# Altium schematic symbol library HW_HOLLAND_NCDM_MONITOR_R1.SchLib: 617 symbols (part 4 of 7)
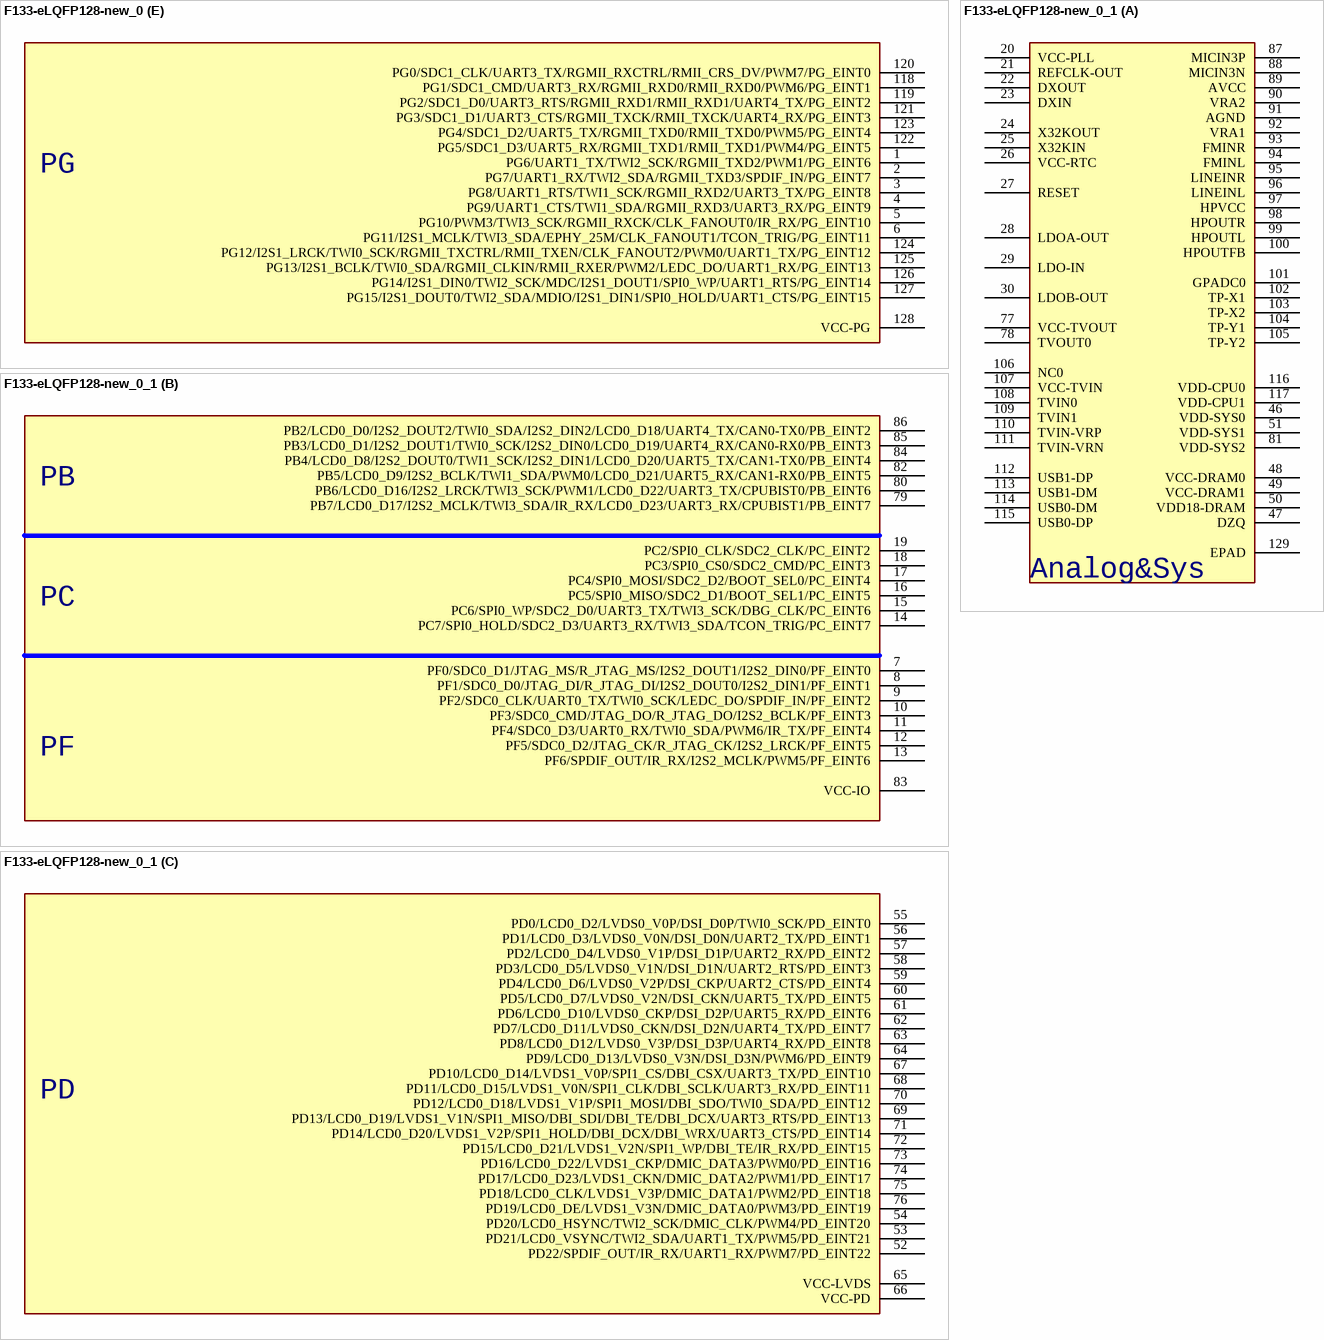
[diagram p22: symbols F133-eLQFP128-new_0 to F133-eLQFP128-new_0_1]

## F133-eLQFP128-new_0
designator U?  (value not drawn)
Manufacturer Part Number: T113-S3; SWAP_INFO: (S1+S2+S3+S4+S5); SPLIT_INST: TRUE; Altium-Right: 150; Altium-Bottom: 360; Altium-Right1: 570; Altium-Bottom1: 270; Altium-Bottom2: 280; Altium-Bottom3: 180; Altium-Bottom4: 200; Altium-Right2: 570; Altium-Right3: 570; Altium-Right4: 570
footprint QFP129P40B1600_1600H160
part A pins: 20 VCC-PLL, 21 REFCLK-OUT, 22 DXOUT, 23 DXIN, 24 X32KOUT, 25 X32KIN, 26 VCC-RTC, 27 RESET, 28 LDOA-OUT, 29 LDO-IN, 30 LDOB-OUT, 46 VDD-SYS0, 47 DZQ, 48 VCC-DRAM0, 49 VCC-DRAM1, 50 VDD18-DRAM, 51 VDD-SYS1, 77 VCC-TVOUT, 78 TVOUT0, 81 VDD-SYS2, 87 MICIN3P, 88 MICIN3N, 89 AVCC, 90 VRA2, 91 AGND, 92 VRA1, 93 FMINR, 94 FMINL, 95 LINEINR, 96 LINEINL, 97 HPVCC, 98 HPOUTR, 99 HPOUTL, 100 HPOUTFB, 101 GPADC0, 102 TP-X1, 103 TP-X2, 104 TP-Y1, 105 TP-Y2, 106 NC0, 107 VCC-TVIN, 108 TVIN0, 109 TVIN1, 110 TVIN-VRP, 111 TVIN-VRN, 112 USB1-DP, 113 USB1-DM, 114 USB0-DM, 115 USB0-DP, 116 VDD-CPU0, 117 VDD-CPU1, 129 EPAD
part B pins: 7 PF0/SDC0_D1/JTAG_MS/R_JTAG_MS/I2S2_DOUT1/I2S2_DIN0/PF_EINT0, 8 PF1/SDC0_D0/JTAG_DI/R_JTAG_DI/I2S2_DOUT0/I2S2_DIN1/PF_EINT1, 9 PF2/SDC0_CLK/UART0_TX/TWI0_SCK/LEDC_DO/SPDIF_IN/PF_EINT2, 10 PF3/SDC0_CMD/JTAG_DO/R_JTAG_DO/I2S2_BCLK/PF_EINT3, 11 PF4/SDC0_D3/UART0_RX/TWI0_SDA/PWM6/IR_TX/PF_EINT4, 12 PF5/SDC0_D2/JTAG_CK/R_JTAG_CK/I2S2_LRCK/PF_EINT5, 13 PF6/SPDIF_OUT/IR_RX/I2S2_MCLK/PWM5/PF_EINT6, 14 PC7/SPI0_HOLD/SDC2_D3/UART3_RX/TWI3_SDA/TCON_TRIG/PC_EINT7, 15 PC6/SPI0_WP/SDC2_D0/UART3_TX/TWI3_SCK/DBG_CLK/PC_EINT6, 16 PC5/SPI0_MISO/SDC2_D1/BOOT_SEL1/PC_EINT5, 17 PC4/SPI0_MOSI/SDC2_D2/BOOT_SEL0/PC_EINT4, 18 PC3/SPI0_CS0/SDC2_CMD/PC_EINT3, 19 PC2/SPI0_CLK/SDC2_CLK/PC_EINT2, 79 PB7/LCD0_D17/I2S2_MCLK/TWI3_SDA/IR_RX/LCD0_D23/UART3_RX/CPUBIST1/PB_EINT7, 80 PB6/LCD0_D16/I2S2_LRCK/TWI3_SCK/PWM1/LCD0_D22/UART3_TX/CPUBIST0/PB_EINT6, 82 PB5/LCD0_D9/I2S2_BCLK/TWI1_SDA/PWM0/LCD0_D21/UART5_RX/CAN1-RX0/PB_EINT5, 83 VCC-IO, 84 PB4/LCD0_D8/I2S2_DOUT0/TWI1_SCK/I2S2_DIN1/LCD0_D20/UART5_TX/CAN1-TX0/PB_EINT4, 85 PB3/LCD0_D1/I2S2_DOUT1/TWI0_SCK/I2S2_DIN0/LCD0_D19/UART4_RX/CAN0-RX0/PB_EINT3, 86 PB2/LCD0_D0/I2S2_DOUT2/TWI0_SDA/I2S2_DIN2/LCD0_D18/UART4_TX/CAN0-TX0/PB_EINT2
part C pins: 52 PD22/SPDIF_OUT/IR_RX/UART1_RX/PWM7/PD_EINT22, 53 PD21/LCD0_VSYNC/TWI2_SDA/UART1_TX/PWM5/PD_EINT21, 54 PD20/LCD0_HSYNC/TWI2_SCK/DMIC_CLK/PWM4/PD_EINT20, 55 PD0/LCD0_D2/LVDS0_V0P/DSI_D0P/TWI0_SCK/PD_EINT0, 56 PD1/LCD0_D3/LVDS0_V0N/DSI_D0N/UART2_TX/PD_EINT1, 57 PD2/LCD0_D4/LVDS0_V1P/DSI_D1P/UART2_RX/PD_EINT2, 58 PD3/LCD0_D5/LVDS0_V1N/DSI_D1N/UART2_RTS/PD_EINT3, 59 PD4/LCD0_D6/LVDS0_V2P/DSI_CKP/UART2_CTS/PD_EINT4, 60 PD5/LCD0_D7/LVDS0_V2N/DSI_CKN/UART5_TX/PD_EINT5, 61 PD6/LCD0_D10/LVDS0_CKP/DSI_D2P/UART5_RX/PD_EINT6, 62 PD7/LCD0_D11/LVDS0_CKN/DSI_D2N/UART4_TX/PD_EINT7, 63 PD8/LCD0_D12/LVDS0_V3P/DSI_D3P/UART4_RX/PD_EINT8, 64 PD9/LCD0_D13/LVDS0_V3N/DSI_D3N/PWM6/PD_EINT9, 65 VCC-LVDS, 66 VCC-PD, 67 PD10/LCD0_D14/LVDS1_V0P/SPI1_CS/DBI_CSX/UART3_TX/PD_EINT10, 68 PD11/LCD0_D15/LVDS1_V0N/SPI1_CLK/DBI_SCLK/UART3_RX/PD_EINT11, 69 PD13/LCD0_D19/LVDS1_V1N/SPI1_MISO/DBI_SDI/DBI_TE/DBI_DCX/UART3_RTS/PD_EINT13, 70 PD12/LCD0_D18/LVDS1_V1P/SPI1_MOSI/DBI_SDO/TWI0_SDA/PD_EINT12, 71 PD14/LCD0_D20/LVDS1_V2P/SPI1_HOLD/DBI_DCX/DBI_WRX/UART3_CTS/PD_EINT14, 72 PD15/LCD0_D21/LVDS1_V2N/SPI1_WP/DBI_TE/IR_RX/PD_EINT15, 73 PD16/LCD0_D22/LVDS1_CKP/DMIC_DATA3/PWM0/PD_EINT16, 74 PD17/LCD0_D23/LVDS1_CKN/DMIC_DATA2/PWM1/PD_EINT17, 75 PD18/LCD0_CLK/LVDS1_V3P/DMIC_DATA1/PWM2/PD_EINT18, 76 PD19/LCD0_DE/LVDS1_V3N/DMIC_DATA0/PWM3/PD_EINT19
part D pins: 31 PE13/TWI2_SDA/PWM5/I2S0_DOUT0/I2S0_DIN1/DMIC_DATA3/RGMII_RXD2/PE_EINT13, 32 PE12/TWI2_SCK/NCSI0_FIELD/I2S0_DOUT2/I2S0_DIN2/RGMII_TXD3/PE_EINT12, 33 PE3/NCSI0_MCLK/UART2_RX/TWI0_SDA/CLK_FANOUT1/UART0_RX/RGMII_TXCK/RMII_TXCK/PE_EINT3, 34 VCC-PE, 35 PE2/NCSI0_PCLK/UART2_TX/TWI0_SCK/CLK_FANOUT0/UART0_TX/RGMII_RXD1/RMII_RXD1/PE_EINT2, 36 PE11/NCSI0_D7/UART1_RX/I2S0_DOUT3/I2S0_DIN3/JTAG_CK/RGMII_TXD2/PE_EINT11, 37 PE10/NCSI0_D6/UART1_TX/PWM4/IR_RX/JTAG_DO/EPHY_25M/PE_EINT10, 38 PE9/NCSI0_D5/UART1_CTS/PWM3/UART3_RX/JTAG_DI/MDIO/PE_EINT9, 39 PE8/NCSI0_D4/UART1_RTS/PWM2/UART3_TX/JTAG_MS/MDC/PE_EINT8, 40 PE7/NCSI0_D3/UART5_RX/TWI3_SDA/SPDIF_OUT/D_JTAG_CK/R_JTAG_CK/RGMII_CLKIN/RMII_RXER/PE_EINT7, 41 PE6/NCSI0_D2/UART5_TX/TWI3_SCK/SPDIF_IN/D_JTAG_DO/R_JTAG_DO/RGMII_TXCTRL/RMII_TXEN/PE_EINT6, 42 PE5/NCSI0_D1/UART4_RX/TWI2_SDA/LEDC_DO/D_JTAG_DI/R_JTAG_DI/RGMII_TXD1/RMII_TXD1/PE_EINT5, 43 PE4/NCSI0_D0/UART4_TX/TWI2_SCK/CLK_FANOUT2/D_JTAG_MS/R_JTAG_MS/RGMII_TXD0/RMII_TXD0/PE_EINT4, 44 PE0/NCSI0_HSYNC/UART2_RTS/TWI1_SCK/LCD0_HSYNC/RGMII_RXCTRL/RMII_CRS_DV/PE_EINT0, 45 PE1/NCSI0_VSYNC/UART2_CTS/TWI1_SDA/LCD0_VSYNC/RGMII_RXD0/RMII_RXD0/PE_EINT1
part E pins: 1 PG6/UART1_TX/TWI2_SCK/RGMII_TXD2/PWM1/PG_EINT6, 2 PG7/UART1_RX/TWI2_SDA/RGMII_TXD3/SPDIF_IN/PG_EINT7, 3 PG8/UART1_RTS/TWI1_SCK/RGMII_RXD2/UART3_TX/PG_EINT8, 4 PG9/UART1_CTS/TWI1_SDA/RGMII_RXD3/UART3_RX/PG_EINT9, 5 PG10/PWM3/TWI3_SCK/RGMII_RXCK/CLK_FANOUT0/IR_RX/PG_EINT10, 6 PG11/I2S1_MCLK/TWI3_SDA/EPHY_25M/CLK_FANOUT1/TCON_TRIG/PG_EINT11, 118 PG1/SDC1_CMD/UART3_RX/RGMII_RXD0/RMII_RXD0/PWM6/PG_EINT1, 119 PG2/SDC1_D0/UART3_RTS/RGMII_RXD1/RMII_RXD1/UART4_TX/PG_EINT2, 120 PG0/SDC1_CLK/UART3_TX/RGMII_RXCTRL/RMII_CRS_DV/PWM7/PG_EINT0, 121 PG3/SDC1_D1/UART3_CTS/RGMII_TXCK/RMII_TXCK/UART4_RX/PG_EINT3, 122 PG5/SDC1_D3/UART5_RX/RGMII_TXD1/RMII_TXD1/PWM4/PG_EINT5, 123 PG4/SDC1_D2/UART5_TX/RGMII_TXD0/RMII_TXD0/PWM5/PG_EINT4, 124 PG12/I2S1_LRCK/TWI0_SCK/RGMII_TXCTRL/RMII_TXEN/CLK_FANOUT2/PWM0/UART1_TX/PG_EINT12, 125 PG13/I2S1_BCLK/TWI0_SDA/RGMII_CLKIN/RMII_RXER/PWM2/LEDC_DO/UART1_RX/PG_EINT13, 126 PG14/I2S1_DIN0/TWI2_SCK/MDC/I2S1_DOUT1/SPI0_WP/UART1_RTS/PG_EINT14, 127 PG15/I2S1_DOUT0/TWI2_SDA/MDIO/I2S1_DIN1/SPI0_HOLD/UART1_CTS/PG_EINT15, 128 VCC-PG
part A text: Analog&Sys
part B text: PB; PC; PF
part C text: PD
part D text: PE
part E text: PG

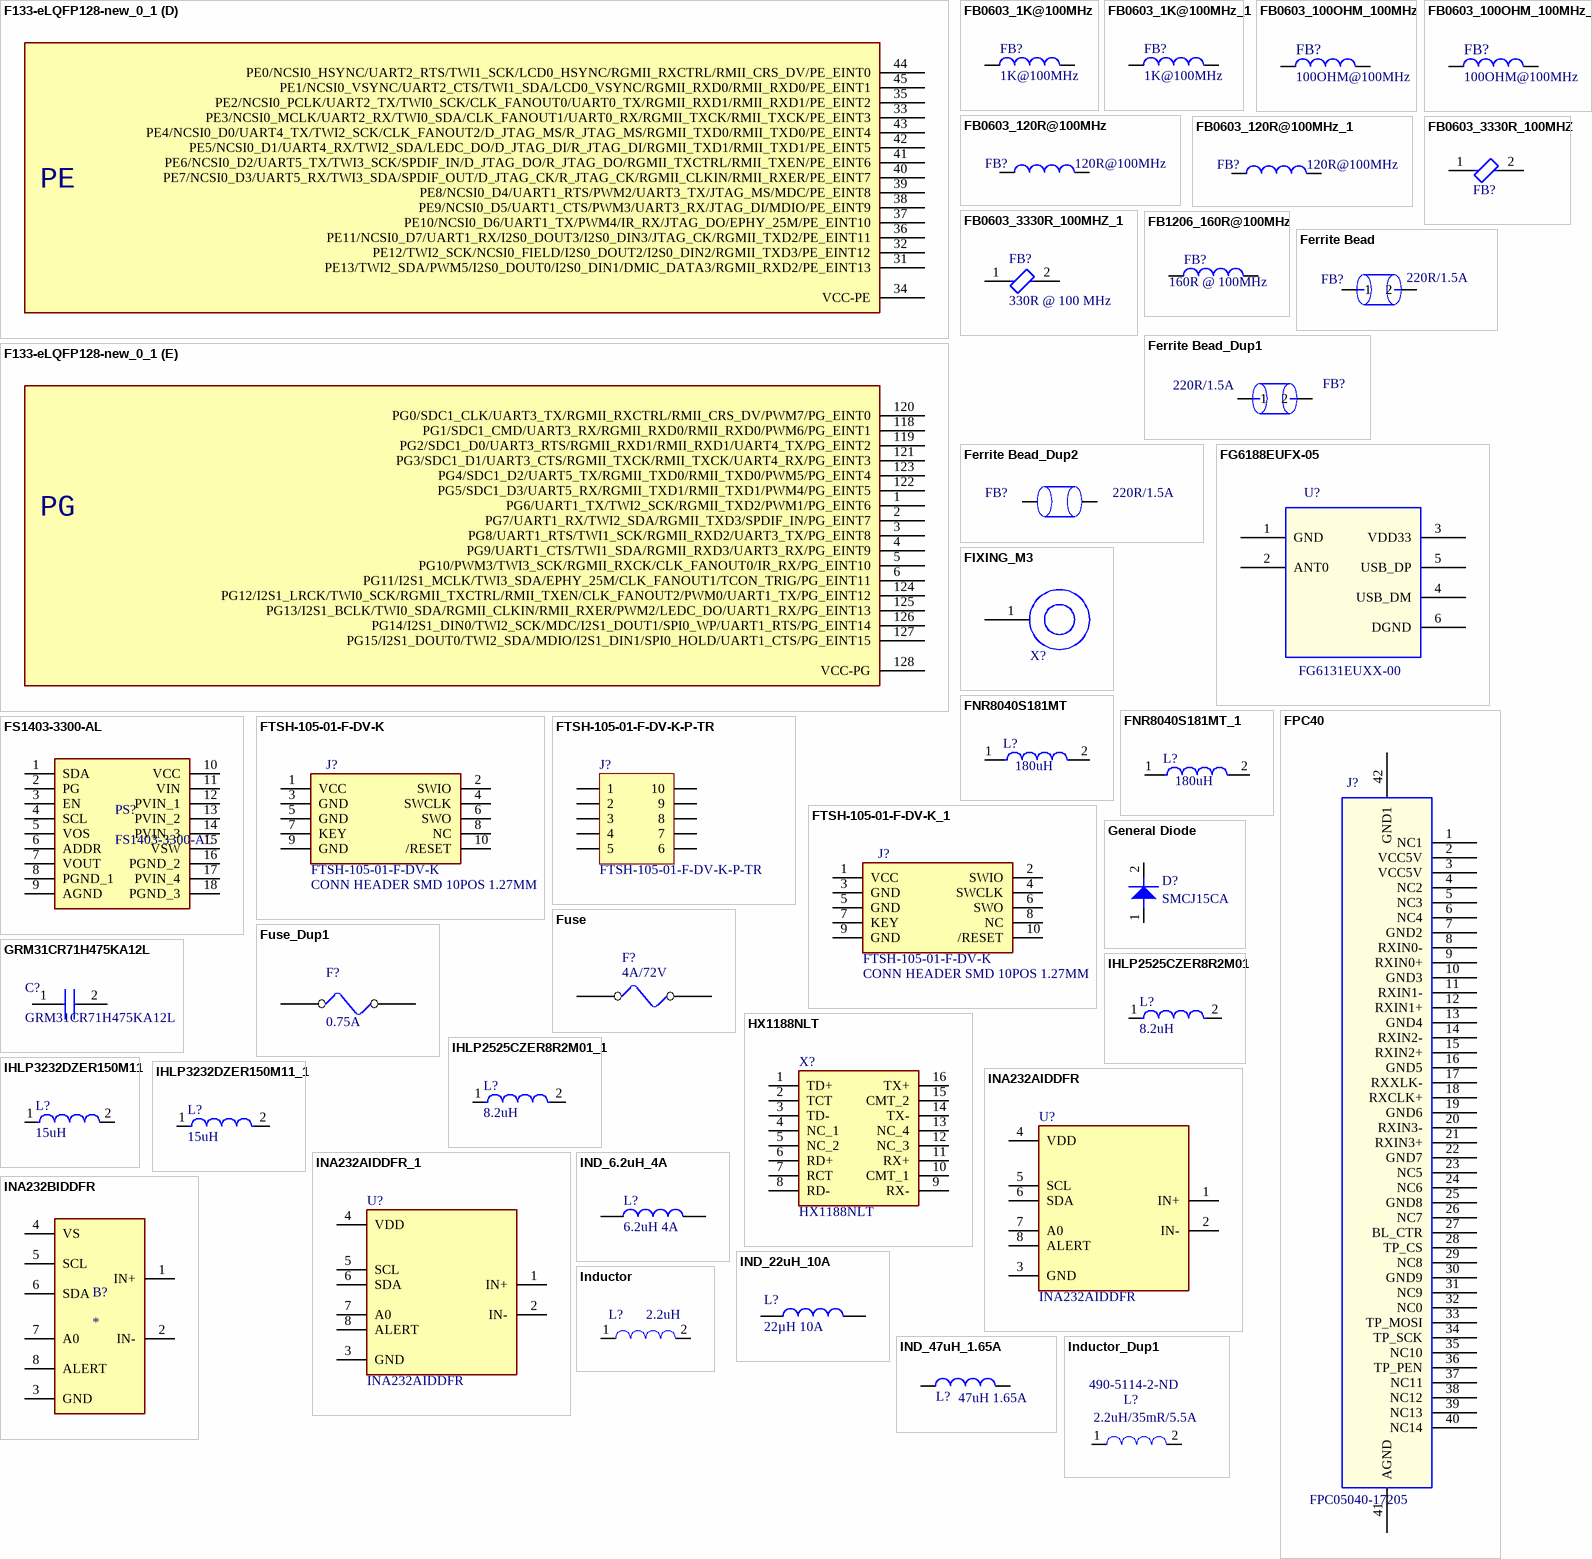
[diagram p9: symbols F133-eLQFP128-new_0_1 to Inductor_Dup1]

## F133-eLQFP128-new_0_1
designator U?, comment F133-eLQFP128-new_0  (value not drawn)
Manufacturer Part Number: T113-S3; SWAP_INFO: (S1+S2+S3+S4+S5); SPLIT_INST: TRUE; Altium-Right: 150; Altium-Bottom: 360; Altium-Right1: 570; Altium-Bottom1: 270; Altium-Bottom2: 280; Altium-Bottom3: 180; Altium-Bottom4: 200; Altium-Right2: 570; Altium-Right3: 570; Altium-Right4: 570
footprint QFP129P40B1600_1600H160
part A pins: 20 VCC-PLL, 21 REFCLK-OUT, 22 DXOUT, 23 DXIN, 24 X32KOUT, 25 X32KIN, 26 VCC-RTC, 27 RESET, 28 LDOA-OUT, 29 LDO-IN, 30 LDOB-OUT, 46 VDD-SYS0, 47 DZQ, 48 VCC-DRAM0, 49 VCC-DRAM1, 50 VDD18-DRAM, 51 VDD-SYS1, 77 VCC-TVOUT, 78 TVOUT0, 81 VDD-SYS2, 87 MICIN3P, 88 MICIN3N, 89 AVCC, 90 VRA2, 91 AGND, 92 VRA1, 93 FMINR, 94 FMINL, 95 LINEINR, 96 LINEINL, 97 HPVCC, 98 HPOUTR, 99 HPOUTL, 100 HPOUTFB, 101 GPADC0, 102 TP-X1, 103 TP-X2, 104 TP-Y1, 105 TP-Y2, 106 NC0, 107 VCC-TVIN, 108 TVIN0, 109 TVIN1, 110 TVIN-VRP, 111 TVIN-VRN, 112 USB1-DP, 113 USB1-DM, 114 USB0-DM, 115 USB0-DP, 116 VDD-CPU0, 117 VDD-CPU1, 129 EPAD
part B pins: 7 PF0/SDC0_D1/JTAG_MS/R_JTAG_MS/I2S2_DOUT1/I2S2_DIN0/PF_EINT0, 8 PF1/SDC0_D0/JTAG_DI/R_JTAG_DI/I2S2_DOUT0/I2S2_DIN1/PF_EINT1, 9 PF2/SDC0_CLK/UART0_TX/TWI0_SCK/LEDC_DO/SPDIF_IN/PF_EINT2, 10 PF3/SDC0_CMD/JTAG_DO/R_JTAG_DO/I2S2_BCLK/PF_EINT3, 11 PF4/SDC0_D3/UART0_RX/TWI0_SDA/PWM6/IR_TX/PF_EINT4, 12 PF5/SDC0_D2/JTAG_CK/R_JTAG_CK/I2S2_LRCK/PF_EINT5, 13 PF6/SPDIF_OUT/IR_RX/I2S2_MCLK/PWM5/PF_EINT6, 14 PC7/SPI0_HOLD/SDC2_D3/UART3_RX/TWI3_SDA/TCON_TRIG/PC_EINT7, 15 PC6/SPI0_WP/SDC2_D0/UART3_TX/TWI3_SCK/DBG_CLK/PC_EINT6, 16 PC5/SPI0_MISO/SDC2_D1/BOOT_SEL1/PC_EINT5, 17 PC4/SPI0_MOSI/SDC2_D2/BOOT_SEL0/PC_EINT4, 18 PC3/SPI0_CS0/SDC2_CMD/PC_EINT3, 19 PC2/SPI0_CLK/SDC2_CLK/PC_EINT2, 79 PB7/LCD0_D17/I2S2_MCLK/TWI3_SDA/IR_RX/LCD0_D23/UART3_RX/CPUBIST1/PB_EINT7, 80 PB6/LCD0_D16/I2S2_LRCK/TWI3_SCK/PWM1/LCD0_D22/UART3_TX/CPUBIST0/PB_EINT6, 82 PB5/LCD0_D9/I2S2_BCLK/TWI1_SDA/PWM0/LCD0_D21/UART5_RX/CAN1-RX0/PB_EINT5, 83 VCC-IO, 84 PB4/LCD0_D8/I2S2_DOUT0/TWI1_SCK/I2S2_DIN1/LCD0_D20/UART5_TX/CAN1-TX0/PB_EINT4, 85 PB3/LCD0_D1/I2S2_DOUT1/TWI0_SCK/I2S2_DIN0/LCD0_D19/UART4_RX/CAN0-RX0/PB_EINT3, 86 PB2/LCD0_D0/I2S2_DOUT2/TWI0_SDA/I2S2_DIN2/LCD0_D18/UART4_TX/CAN0-TX0/PB_EINT2
part C pins: 52 PD22/SPDIF_OUT/IR_RX/UART1_RX/PWM7/PD_EINT22, 53 PD21/LCD0_VSYNC/TWI2_SDA/UART1_TX/PWM5/PD_EINT21, 54 PD20/LCD0_HSYNC/TWI2_SCK/DMIC_CLK/PWM4/PD_EINT20, 55 PD0/LCD0_D2/LVDS0_V0P/DSI_D0P/TWI0_SCK/PD_EINT0, 56 PD1/LCD0_D3/LVDS0_V0N/DSI_D0N/UART2_TX/PD_EINT1, 57 PD2/LCD0_D4/LVDS0_V1P/DSI_D1P/UART2_RX/PD_EINT2, 58 PD3/LCD0_D5/LVDS0_V1N/DSI_D1N/UART2_RTS/PD_EINT3, 59 PD4/LCD0_D6/LVDS0_V2P/DSI_CKP/UART2_CTS/PD_EINT4, 60 PD5/LCD0_D7/LVDS0_V2N/DSI_CKN/UART5_TX/PD_EINT5, 61 PD6/LCD0_D10/LVDS0_CKP/DSI_D2P/UART5_RX/PD_EINT6, 62 PD7/LCD0_D11/LVDS0_CKN/DSI_D2N/UART4_TX/PD_EINT7, 63 PD8/LCD0_D12/LVDS0_V3P/DSI_D3P/UART4_RX/PD_EINT8, 64 PD9/LCD0_D13/LVDS0_V3N/DSI_D3N/PWM6/PD_EINT9, 65 VCC-LVDS, 66 VCC-PD, 67 PD10/LCD0_D14/LVDS1_V0P/SPI1_CS/DBI_CSX/UART3_TX/PD_EINT10, 68 PD11/LCD0_D15/LVDS1_V0N/SPI1_CLK/DBI_SCLK/UART3_RX/PD_EINT11, 69 PD13/LCD0_D19/LVDS1_V1N/SPI1_MISO/DBI_SDI/DBI_TE/DBI_DCX/UART3_RTS/PD_EINT13, 70 PD12/LCD0_D18/LVDS1_V1P/SPI1_MOSI/DBI_SDO/TWI0_SDA/PD_EINT12, 71 PD14/LCD0_D20/LVDS1_V2P/SPI1_HOLD/DBI_DCX/DBI_WRX/UART3_CTS/PD_EINT14, 72 PD15/LCD0_D21/LVDS1_V2N/SPI1_WP/DBI_TE/IR_RX/PD_EINT15, 73 PD16/LCD0_D22/LVDS1_CKP/DMIC_DATA3/PWM0/PD_EINT16, 74 PD17/LCD0_D23/LVDS1_CKN/DMIC_DATA2/PWM1/PD_EINT17, 75 PD18/LCD0_CLK/LVDS1_V3P/DMIC_DATA1/PWM2/PD_EINT18, 76 PD19/LCD0_DE/LVDS1_V3N/DMIC_DATA0/PWM3/PD_EINT19
part D pins: 31 PE13/TWI2_SDA/PWM5/I2S0_DOUT0/I2S0_DIN1/DMIC_DATA3/RGMII_RXD2/PE_EINT13, 32 PE12/TWI2_SCK/NCSI0_FIELD/I2S0_DOUT2/I2S0_DIN2/RGMII_TXD3/PE_EINT12, 33 PE3/NCSI0_MCLK/UART2_RX/TWI0_SDA/CLK_FANOUT1/UART0_RX/RGMII_TXCK/RMII_TXCK/PE_EINT3, 34 VCC-PE, 35 PE2/NCSI0_PCLK/UART2_TX/TWI0_SCK/CLK_FANOUT0/UART0_TX/RGMII_RXD1/RMII_RXD1/PE_EINT2, 36 PE11/NCSI0_D7/UART1_RX/I2S0_DOUT3/I2S0_DIN3/JTAG_CK/RGMII_TXD2/PE_EINT11, 37 PE10/NCSI0_D6/UART1_TX/PWM4/IR_RX/JTAG_DO/EPHY_25M/PE_EINT10, 38 PE9/NCSI0_D5/UART1_CTS/PWM3/UART3_RX/JTAG_DI/MDIO/PE_EINT9, 39 PE8/NCSI0_D4/UART1_RTS/PWM2/UART3_TX/JTAG_MS/MDC/PE_EINT8, 40 PE7/NCSI0_D3/UART5_RX/TWI3_SDA/SPDIF_OUT/D_JTAG_CK/R_JTAG_CK/RGMII_CLKIN/RMII_RXER/PE_EINT7, 41 PE6/NCSI0_D2/UART5_TX/TWI3_SCK/SPDIF_IN/D_JTAG_DO/R_JTAG_DO/RGMII_TXCTRL/RMII_TXEN/PE_EINT6, 42 PE5/NCSI0_D1/UART4_RX/TWI2_SDA/LEDC_DO/D_JTAG_DI/R_JTAG_DI/RGMII_TXD1/RMII_TXD1/PE_EINT5, 43 PE4/NCSI0_D0/UART4_TX/TWI2_SCK/CLK_FANOUT2/D_JTAG_MS/R_JTAG_MS/RGMII_TXD0/RMII_TXD0/PE_EINT4, 44 PE0/NCSI0_HSYNC/UART2_RTS/TWI1_SCK/LCD0_HSYNC/RGMII_RXCTRL/RMII_CRS_DV/PE_EINT0, 45 PE1/NCSI0_VSYNC/UART2_CTS/TWI1_SDA/LCD0_VSYNC/RGMII_RXD0/RMII_RXD0/PE_EINT1
part E pins: 1 PG6/UART1_TX/TWI2_SCK/RGMII_TXD2/PWM1/PG_EINT6, 2 PG7/UART1_RX/TWI2_SDA/RGMII_TXD3/SPDIF_IN/PG_EINT7, 3 PG8/UART1_RTS/TWI1_SCK/RGMII_RXD2/UART3_TX/PG_EINT8, 4 PG9/UART1_CTS/TWI1_SDA/RGMII_RXD3/UART3_RX/PG_EINT9, 5 PG10/PWM3/TWI3_SCK/RGMII_RXCK/CLK_FANOUT0/IR_RX/PG_EINT10, 6 PG11/I2S1_MCLK/TWI3_SDA/EPHY_25M/CLK_FANOUT1/TCON_TRIG/PG_EINT11, 118 PG1/SDC1_CMD/UART3_RX/RGMII_RXD0/RMII_RXD0/PWM6/PG_EINT1, 119 PG2/SDC1_D0/UART3_RTS/RGMII_RXD1/RMII_RXD1/UART4_TX/PG_EINT2, 120 PG0/SDC1_CLK/UART3_TX/RGMII_RXCTRL/RMII_CRS_DV/PWM7/PG_EINT0, 121 PG3/SDC1_D1/UART3_CTS/RGMII_TXCK/RMII_TXCK/UART4_RX/PG_EINT3, 122 PG5/SDC1_D3/UART5_RX/RGMII_TXD1/RMII_TXD1/PWM4/PG_EINT5, 123 PG4/SDC1_D2/UART5_TX/RGMII_TXD0/RMII_TXD0/PWM5/PG_EINT4, 124 PG12/I2S1_LRCK/TWI0_SCK/RGMII_TXCTRL/RMII_TXEN/CLK_FANOUT2/PWM0/UART1_TX/PG_EINT12, 125 PG13/I2S1_BCLK/TWI0_SDA/RGMII_CLKIN/RMII_RXER/PWM2/LEDC_DO/UART1_RX/PG_EINT13, 126 PG14/I2S1_DIN0/TWI2_SCK/MDC/I2S1_DOUT1/SPI0_WP/UART1_RTS/PG_EINT14, 127 PG15/I2S1_DOUT0/TWI2_SDA/MDIO/I2S1_DIN1/SPI0_HOLD/UART1_CTS/PG_EINT15, 128 VCC-PG
part A text: Analog&Sys
part B text: PB; PC; PF
part C text: PD
part D text: PE
part E text: PG

## FB0603_1K@100MHz
designator FB?, comment value 1K@100MHz  (hidden comment: FERRITE BEAD 1K ohm 0603 1LN)
120 Ohms @ 100 MHz 1 Power Line Ferrite Bead 0603 (1608 Metric) 3A 30mOhm; Manufacturer Part Number: BLM18KG121TH1D; Order Code: Digi:490-13261-2-ND; LCSC Part Number: C437404
footprint FB0603 (0.063" L x 0.031" W (1.60mm x 0.80mm))
pins: 1, 2

## FB0603_1K@100MHz_1
designator FB?, comment value 1K@100MHz  (hidden comment: FERRITE BEAD 1K ohm 0603 1LN)
120 Ohms @ 100 MHz 1 Power Line Ferrite Bead 0603 (1608 Metric) 3A 30mOhm; Manufacturer Part Number: BLM18KG121TH1D; Order Code: Digi:490-13261-2-ND; LCSC Part Number: C437404
footprint FB0603 (0.063" L x 0.031" W (1.60mm x 0.80mm))
pins: 1, 2

## FB0603_100OHM_100MHz
designator FB?, comment 100OHM@100MHz
100 Ohms @ 100 MHz 1 Power Line Ferrite Bead 0603 (1608 Metric) 2A 40mOhm; Manufacturer: TDK; Manufacturer Part Number: MPZ1608Y101BTA00; Tolerance: 25%; Impedance: 100R; DC Resistance (DCR): 40mR; ComponentLink1URL: https://chn-vm-apps.microchip.com/mchprepo/parts/Datasheets/beads_commercial_power_mpz_en.pdf; ComponentLink1Description: Datasheet; Supplier 1: Digi-Key; Supplier Part Number 1: 445-2984-1-ND; RoHS: Yes; Category: Ferrite Beads and Chips; Stock 1: 551; Pricing 1: 1=0,10000, 10=0,07200, 25=0,06480, 50=0,05840, 100=0,04290, 250=0,03120, 500=0,02860, 1000=0,02470 (USD); Mount: Surface Mount; Case/Package: 0603; Case Code (Metric): 1608; Case Code (Imperial): 0603; Core Material: Ferrite; Packaging: Tape and Reel; Package Quantity: 4000; Max DC Current: 2A; Current Rating: 2A; Series: MPZ; Length: 0.063inch; Width: 0.031inch; Height: 0.037inch; RoHS Compliant: Yes; REACH SVHC: No SVHC; ComponentLink2URL: https://datasheet.ciiva.com/46634/beads-commercial-power-mpz-en-46634677.pdf?src-supplier=Digi-Key; ComponentLink2Description: https://datasheet.ciiva.com/46634/beads-commercial-power-mpz-en-46634677.pdf?src-supplier=Digi-Key; ComponentLink3URL: https://datasheet.ciiva.com/48682/beads-commercial-power-mpz-en-48682501.pdf?src-supplier=Avnet; ComponentLink3Description: https://datasheet.ciiva.com/48682/beads-commercial-power-mpz-en-48682501.pdf?src-supplier=Avnet; ComponentLink4URL: https://datasheet.ciiva.com/46634/beads-commercial-power-mpz-en-46634684.pdf?src-supplier=Digi-Key; ComponentLink4Description: https://datasheet.ciiva.com/46634/beads-commercial-power-mpz-en-46634684.pdf?src-supplier=Digi-Key; ComponentLink5URL: https://datasheet.ciiva.com/46634/beads-commercial-power-mpz-en-46634621.pdf?src-supplier=Digi-Key; ComponentLink5Description: https://datasheet.ciiva.com/46634/beads-commercial-power-mpz-en-46634621.pdf?src-supplier=Digi-Key; Parameter 1: *; LCSC Manufacturer Part Number: MPZ1608Y101BTA00; LCSC Part Number: C501996
footprint FB 0603(1608)
pins: 1, 2
2 alternate drawings of the same symbol

## FB0603_100OHM_100MHz_1
designator FB?, comment 100OHM@100MHz
100 Ohms @ 100 MHz 1 Power Line Ferrite Bead 0603 (1608 Metric) 2A 40mOhm; Manufacturer: TDK; Manufacturer Part Number: MPZ1608Y101BTA00; Tolerance: 25%; Impedance: 100R; DC Resistance (DCR): 40mR; ComponentLink1URL: https://chn-vm-apps.microchip.com/mchprepo/parts/Datasheets/beads_commercial_power_mpz_en.pdf; ComponentLink1Description: Datasheet; Supplier 1: Digi-Key; Supplier Part Number 1: 445-2984-1-ND; RoHS: Yes; Category: Ferrite Beads and Chips; Stock 1: 551; Pricing 1: 1=0,10000, 10=0,07200, 25=0,06480, 50=0,05840, 100=0,04290, 250=0,03120, 500=0,02860, 1000=0,02470 (USD); Mount: Surface Mount; Case/Package: 0603; Case Code (Metric): 1608; Case Code (Imperial): 0603; Core Material: Ferrite; Packaging: Tape and Reel; Package Quantity: 4000; Max DC Current: 2A; Current Rating: 2A; Series: MPZ; Length: 0.063inch; Width: 0.031inch; Height: 0.037inch; RoHS Compliant: Yes; REACH SVHC: No SVHC; ComponentLink2URL: https://datasheet.ciiva.com/46634/beads-commercial-power-mpz-en-46634677.pdf?src-supplier=Digi-Key; ComponentLink2Description: https://datasheet.ciiva.com/46634/beads-commercial-power-mpz-en-46634677.pdf?src-supplier=Digi-Key; ComponentLink3URL: https://datasheet.ciiva.com/48682/beads-commercial-power-mpz-en-48682501.pdf?src-supplier=Avnet; ComponentLink3Description: https://datasheet.ciiva.com/48682/beads-commercial-power-mpz-en-48682501.pdf?src-supplier=Avnet; ComponentLink4URL: https://datasheet.ciiva.com/46634/beads-commercial-power-mpz-en-46634684.pdf?src-supplier=Digi-Key; ComponentLink4Description: https://datasheet.ciiva.com/46634/beads-commercial-power-mpz-en-46634684.pdf?src-supplier=Digi-Key; ComponentLink5URL: https://datasheet.ciiva.com/46634/beads-commercial-power-mpz-en-46634621.pdf?src-supplier=Digi-Key; ComponentLink5Description: https://datasheet.ciiva.com/46634/beads-commercial-power-mpz-en-46634621.pdf?src-supplier=Digi-Key; Parameter 1: *; LCSC Manufacturer Part Number: MPZ1608Y101BTA00; LCSC Part Number: C501996
footprint FB 0603(1608)
pins: 1, 2
2 alternate drawings of the same symbol

## FB0603_120R@100MHz
designator FB?, comment value 120R@100MHz  (hidden comment: FERRITE BEAD 120 OHM 0603 1LN)
120 Ohms @ 100 MHz 1 Power Line Ferrite Bead 0603 (1608 Metric) 3A 30mOhm; Manufacturer Part Number: BLM18KG121TH1D; Order Code: Digi:490-13261-2-ND; LCSC Manufacturer Part Number: BLM18KG121TH1D; LCSC Part Number: C437404
footprint FB 0603(1608)
pins: 1, 2

## FB0603_120R@100MHz_1
designator FB?, comment value 120R@100MHz  (hidden comment: FERRITE BEAD 120 OHM 0603 1LN)
120 Ohms @ 100 MHz 1 Power Line Ferrite Bead 0603 (1608 Metric) 3A 30mOhm; Manufacturer Part Number: BLM18KG121TH1D; Order Code: Digi:490-13261-2-ND; LCSC Manufacturer Part Number: BLM18KG121TH1D; LCSC Part Number: C437404
footprint FB 0603(1608)
pins: 1, 2

## FB0603_3330R_100MHZ
designator FB?  (value not drawn)
330 Ohms @ 100 MHz 1 Power Line Ferrite Bead 0603 (1608 Metric) 1.5A 70mOhm; Manufacturer Part Number: BLM18SG331TN1D; Manufacturer Name: Murata Electronics; Impedance @ Frequency: 330 Ohms @ 100 MHz; Current Rating (Max): 1.5A
footprint FB_0603
pins: 1, 2

## FB0603_3330R_100MHZ_1
designator FB?, comment 330R @ 100 MHz
330 Ohms @ 100 MHz 1 Power Line Ferrite Bead 0603 (1608 Metric) 1.5A 70mOhm; Manufacturer Part Number: BLM18SG331TN1D; Manufacturer Name: Murata Electronics; Impedance @ Frequency: 330 Ohms @ 100 MHz; Current Rating (Max): 1.5A
footprint FB_0603
pins: 1, 2

## FB1206_160R@100MHz
designator FB?, comment 160R @ 100MHz
FERRITE BEAD 160 OHM 1206 1LN; Manufacturer Part Number: HI1206T161R-10; Order Code: DIGI : 240-2411-1-ND; Value: 160R @ 100MHz
footprint FB1210
pins: 1, 2

## Ferrite Bead
designator FB?, comment 220R/1.5A
Ferrite Bead,220R@100Mhz,1.5A,+/-25%,SMD,0603,Fenghua; Manufacturer P/N: CBM160808U221T; Myir P/N: 20601.80007; Reserve Value: 220R; PCB Footprint: FB0603; Part Type: Ferrite Bead; Manufacturer: Fenghua; Datasheet: CBM160808U221T.pdf
footprint FB0603
pins: 1, 2

## Ferrite Bead_Dup1
designator FB?, comment 220R/1.5A
Ferrite Bead,220R@100Mhz,1.5A,+/-25%,SMD,0603,Fenghua; Manufacturer P/N: CBM160808U221T; Myir P/N: 20601.80007; Reserve Value: 220R; PCB Footprint: FB0603; Part Type: Ferrite Bead; Manufacturer: Fenghua; Datasheet: CBM160808U221T.pdf
footprint FB0603
pins: 1, 2

## Ferrite Bead_Dup2
designator FB?, comment 220R/1.5A
Ferrite Bead,220R@100Mhz,1.5A,+/-25%,SMD,0603,Fenghua; Manufacturer P/N: CBM160808U221T; Reserve Value: 220R; Myir P/N: 20601.80007; PCB Footprint: FB0603; Datasheet: CBM160808U221T.pdf; Manufacturer: Fenghua; Part Type: Ferrite Bead
footprint FB0603
pins: 1, 2

## FG6188EUFX-05
designator U?, comment FG6131EUXX-00
USB WIFI module,Size 12.2*13*0.6mm,SMD,0¡ãC to 70¡ãC,Fn-link; PCB Footprint: modile-FG6188EUFX-05; Myir P/N: 20201.00010; Reserve Value: FG6188EUFX-05; Part Type: WIFI Module; Manufacturer: Fn-link; Manufacturer P/N: FG6131EUXX-00; Datasheet: FG6131EUXX-00.pdf
footprint modile-FG6188EUFX-05
pins: 1 GND (power), 2 ANT0, 3 VDD33 (power), 4 USB_DM, 5 USB_DP, 6 DGND (power)

## FIXING_M3
designator X?, comment M3  (value not drawn)  (no BOM)
FIXING HOLE M3; Value: M3
footprint FIXING_M3 (FIXING HOLE M3)
pins: 1

## FNR8040S181MT
designator L?, comment value 180uH  (hidden comment: 830mA 180uH ±20% SMD,8x8mm Power Inductors ROHS)
Manufacturer Part Number: FNR8040S181MT; Order Code: LCSC: C168147; LCSC Manufacturer Part Number: FNR8040S181MT; LCSC Part Number: C168147
footprint IND-SMD_L8.0-W8.0
pins: 1, 2

## FNR8040S181MT_1
designator L?, comment value 180uH  (hidden comment: 830mA 180uH ±20% SMD,8x8mm Power Inductors ROHS)
Manufacturer Part Number: FNR8040S181MT; Order Code: LCSC: C168147; LCSC Manufacturer Part Number: FNR8040S181MT; LCSC Part Number: C168147
footprint IND-SMD_L8.0-W8.0
pins: 1, 2

## FPC40
designator J?, comment FPC05040-17205
FPC Connector,40pin,0.5mm pitch,Dual-sided Contact Models, Operating temperature range from¨C45~85¡æ,Atom; PCB Footprint: FPC40-0_5-h; Myir P/N: 21106.00016; Part Type: FPC Connector; Manufacturer: Atom; Manufacturer P/N: FPC05040-17205; Reserve Value: FPC05040-17205; Datasheet: FPC_Atom.pdf
footprint FPC40-0_5-h
pins: 1 NC1, 2 VCC5V (power), 3 VCC5V (power), 4 NC2, 5 NC3, 6 NC4, 7 GND2 (power), 8 RXIN0-, 9 RXIN0+, 10 GND3 (power), 11 RXIN1-, 12 RXIN1+, 13 GND4 (power), 14 RXIN2-, 15 RXIN2+, 16 GND5 (power), 17 RXXLK-, 18 RXCLK+, 19 GND6 (power), 20 RXIN3-, 21 RXIN3+, 22 GND7 (power), 23 NC5, 24 NC6, 25 GND8 (power), 26 NC7, 27 BL_CTR, 28 TP_CS, 29 NC8, 30 GND9 (power), 31 NC9, 32 NC0, 33 TP_MOSI, 34 TP_SCK, 35 NC10, 36 TP_PEN, 37 NC11, 38 NC12, 39 NC13, 40 NC14, 41 AGND (power), 42 GND1 (power)

## FS1403-3300-AL
designator PS?
Module DC-DC 1-OUT 3.3V 3A 17-Pin uPOL T/R; Manufacturer: TDK; Min Input Voltage: 8V; Max Input Voltage: 16V; Number of Outputs: 1; Supplier 1: Digikey; Manufacturer Part Number: FS1403-3300-AL; RoHS: Yes; Category: Board Mount Modules; Stock 1: 28000; Pricing 1: 4000=3.28344 (USD); Mount: Surface Mount; Case/Package: SMD/SMT; Min Operating Temperature: -40°C; Max Operating Temperature: 125°C; Series: µPOL™ FS1403 (15W); Voltage - Output 1: 3.3V; Max Output Current: 3A; Supplier Part Number 1: 445-FS1403-3300-ALTR-ND
footprint FS140X
pins: 1 SDA, 2 PG, 3 EN, 4 SCL, 5 VOS, 6 ADDR, 7 VOUT, 8 PGND_1, 9 AGND, 10 VCC, 11 VIN, 12 PVIN_1, 13 PVIN_2, 14 PVIN_3, 15 VSW, 16 PGND_2, 17 PVIN_4, 18 PGND_3

## FTSH-105-01-F-DV-K
designator J?, comment CONN HEADER SMD 10POS 1.27MM  Manufacturer Part Number: FTSH-105-01-F-DV-K
Connector Header Surface Mount 10 position 0.050" (1.27mm); Order Code: DIGI: SAM8796-ND
footprint Samtec_0_MFG
pins: 1 VCC, 2 SWIO, 3 GND, 4 SWCLK, 5 GND, 6 SWO, 7 KEY, 8 NC, 9 GND, 10 /RESET

## FTSH-105-01-F-DV-K-P-TR
designator J?
Connector Header Surface Mount 10 position 0.050" (1.27mm); Manufacturer Name: Samtec Inc.; Pitch - Mating: 0.050(1.27mm); Number of Positions: 10; Manufacturer Part Number: FTSH-105-01-F-DV-K-P-TR; Number of Rows: 2
footprint Samtec_0_MFG
pins: 1, 2, 3, 4, 5, 6, 7, 8, 9, 10

## FTSH-105-01-F-DV-K_1
designator J?, comment CONN HEADER SMD 10POS 1.27MM  Manufacturer Part Number: FTSH-105-01-F-DV-K
Connector Header Surface Mount 10 position 0.050" (1.27mm); Order Code: DIGI: SAM8796-ND
footprint Samtec_0_MFG
pins: 1 VCC, 2 SWIO, 3 GND, 4 SWCLK, 5 GND, 6 SWO, 7 KEY, 8 NC, 9 GND, 10 /RESET

## Fuse
designator F?, comment 4A/72V
Fuse,Resettable 4A 75V,SMD 1206,TLC; Manufacturer P/N: F12F4; Myir P/N: 20801.00014; PCB Footprint: F1206; Datasheet: F12F Series.pdf; Reserve Value: 4A; Manufacturer: TLC; Part Type: Resettable Fuse
footprint F1206
pins: 1, 2

## Fuse_Dup1
designator F?, comment 0.75A
Fuse,Resettable,0.75A,6V,SMD,1206,Bourns; Manufacturer P/N: MF-NSMF075-2; Myir P/N: 20801.00003; PCB Footprint: F1206; Part Type: Resettable Fuse; Manufacturer: Bourns; Reserve Value: 0.75A; Datasheet: mfnsmf.pdf
footprint F1206
pins: 1, 2

## General Diode
designator D?, comment SMCJ15CA
Diode,TVS Single Uni-dir 15V 1500W,DO-214AB(SMC),UN; Myir P/N: 20701.00051; Datasheet: UN-SMCJ.pdf; Reserve Value: SMCJ15CA; Manufacturer P/N: SMCJ15CA; Manufacturer: UN; Part Type: Diode; PCB Footprint: DO-214AB
footprint DO-214AB
pins: 1, 2

## GRM31CR71H475KA12L
designator C?
Capacitor; Manufacturer_Name: Murata Electronics; Datasheet Link: https://search.murata.co.jp/Ceramy/image/img/A01X/G101/ENG/GRM31CR71H475KA12-01A.pdf; Height: 1.8mm; Manufacturer_Part_Number: GRM31CR71H475KA12L; Mouser Part Number: 81-GRM31CR71H475KA2L; Mouser Price/Stock: https://www.mouser.co.uk/ProductDetail/Murata-Electronics/GRM31CR71H475KA12L?qs=QOxk%252BkhTc6I%252BVQUsJuOHog%3D%3D; Arrow Part Number: GRM31CR71H475KA12L; Arrow Price/Stock: https://www.arrow.com/en/products/grm31cr71h475ka12l/murata-manufacturing?utm_currency=USD&region=nac
footprint CAPC3216X180N
pins: 1, 2

## HX1188NLT
designator X?
Telecom Transformer 1CT:1CT/1CT:1CT 1.5Ohm Prim. DCR 1.5Ohm Sec. DCR 16Term. Gull Wing SMD; Manufacturer_Name: Pulse; Geometry.Height: 6.07mm; Manufacturer Part Number: HX1188NLT; Mouser Part Number: 673-HX1188NLT; Mouser Price/Stock: https://www.mouser.co.uk/ProductDetail/Pulse-Electronics/HX1188NLT?qs=7h3O1UVlCGOyAkRk4EAe8A%3D%3D; Arrow Part Number: HX1188NLT; Arrow Price/Stock: https://www.arrow.com/en/products/hx1188nlt/pulse-electronics-corporation?region=europe; Datasheet Link: https://datasheet.datasheetarchive.com/originals/distributors/Datasheets-DGA2/221032.pdf
footprint HX1188NLT
pins: 1 TD+, 2 TCT, 3 TD-, 4 NC_1, 5 NC_2, 6 RD+, 7 RCT, 8 RD-, 9 RX-, 10 CMT_1, 11 RX+, 12 NC_3, 13 NC_4, 14 TX-, 15 CMT_2, 16 TX+

## IHLP2525CZER8R2M01
designator L?, comment value 8.2uH  (hidden comment: FIXED IND 8.2UH 4A 68 MOHM SMD)
8.2 µH Shielded Molded Inductor 4 A 68mOhm Max Nonstandard; Manufacturer Part Number: IHLP2525CZER8R2M01; Order Code: Digi: 541-1012-2-ND; LCSC Manufacturer Part Number: IHLP2525CZER8R2M01; LCSC Part Number: C506576
footprint Vishay_IHLP-2525CZ-FP_2_413x3_429-3D_3_0_MFG
pins: 1, 2

## IHLP2525CZER8R2M01_1
designator L?, comment value 8.2uH  (hidden comment: FIXED IND 8.2UH 4A 68 MOHM SMD)
8.2 µH Shielded Molded Inductor 4 A 68mOhm Max Nonstandard; Manufacturer Part Number: IHLP2525CZER8R2M01; Order Code: Digi: 541-1012-2-ND; LCSC Manufacturer Part Number: IHLP2525CZER8R2M01; LCSC Part Number: C506576
footprint Vishay_IHLP-2525CZ-FP_2_413x3_429-3D_3_0_MFG
pins: 1, 2

## IHLP3232DZER150M11
designator L?, comment value 15uH  (hidden comment: 15 µH Shielded Molded Inductor 4.9 A 65.3mOhm Max Nonstandard)
Manufacturer Part Number: IHLP3232DZER150M11; Order Code: Digi: 541-1347-2-ND; LCSC Manufacturer Part Number: IHLP3232DZER150M11; LCSC Part Number: C845050
footprint Vishay_IHLP-3232DZ-FP_2_413x5_334-3D_4_0_MFG
pins: 1, 2

## IHLP3232DZER150M11_1
designator L?, comment value 15uH  (hidden comment: 15 µH Shielded Molded Inductor 4.9 A 65.3mOhm Max Nonstandard)
Manufacturer Part Number: IHLP3232DZER150M11; Order Code: Digi: 541-1347-2-ND; LCSC Manufacturer Part Number: IHLP3232DZER150M11; LCSC Part Number: C845050
footprint Vishay_IHLP-3232DZ-FP_2_413x5_334-3D_4_0_MFG
pins: 1, 2

## INA232AIDDFR
designator U?, comment Manufacturer Part Number: INA232AIDDFR  (hidden comment: 48-V, 16-BIT HIGH-PRECISION IC O)
Current Monitor Regulator High/Low-Side TSOT-23-8; Order Code: Digi: 296-INA232AIDDFRTR-ND; LCSC Manufacturer Part Number: *; LCSC Part Number: *
footprint SOT23-8
pins: 1 IN+, 2 IN-, 3 GND, 4 VDD, 5 SCL, 6 SDA, 7 A0, 8 ALERT

## INA232AIDDFR_1
designator U?, comment Manufacturer Part Number: INA232AIDDFR  (hidden comment: 48-V, 16-BIT HIGH-PRECISION IC O)
Current Monitor Regulator High/Low-Side TSOT-23-8; Order Code: Digi: 296-INA232AIDDFRTR-ND; LCSC Manufacturer Part Number: *; LCSC Part Number: *
footprint SOT23-8
pins: 1 IN+, 2 IN-, 3 GND, 4 VDD, 5 SCL, 6 SDA, 7 A0, 8 ALERT

## INA232BIDDFR
designator B?
48-V, 16-bit high-precision I²C output digital power monitor with alert 8-SOT-23-THIN -40 to 125; Manufacturer: Texas Instruments; Manufacturer Part Number: INA232BIDDFR; Supplier 1: Digikey; RoHS: No; Stock 1: 8755; Pricing 1: 1=2.5, 10=2.248, 25=2.1208, 100=1.8071, 250=1.6968, 500=1.4847, 1000=1.23018 (USD); Supplier Part Number 1: 296-INA232BIDDFRCT-ND
footprint SOT65P280X110-8N
pins: 1 IN+, 2 IN-, 3 GND, 4 VS, 5 SCL, 6 SDA, 7 A0, 8 ALERT

## IND_6.2uH_4A
designator L?, comment 6.2uH 4A
6.2 µH Shielded Drum Core, Wirewound Inductor 4 A 16.5mOhm Nonstandard; Manufacturer_Name: Bourns; Manufacturer Part Number: SRU1038-6R2Y; Geometry.Height: 6.1mm; Mouser Part Number: 652-SRU1038-6R2Y; Mouser Price/Stock: https://www.mouser.co.uk/ProductDetail/Bourns/SRU1038-6R2Y?qs=q9ZR8LvBB%2FuBaClm0822pQ%3D%3D; Arrow Part Number: SRU1038-6R2Y; Arrow Price/Stock: https://www.arrow.com/en/products/sru1038-6r2y/bourns; Datasheet Link: https://www.mouser.com/datasheet/2/54/sru1038-1391493.pdf
footprint SRU10386R2Y
pins: 1, 2

## IND_22uH_10A
designator L?, comment 22µH 10A
WE-HIDA THT High Current Inductor, size 3119, 22µH, 10A; Manufacturer: Wurth Elektronik; Manufacturer Part Number: 7444013119220; Inductance Tolerance: +/-20%; Self Resonant Frequency: 9MHz; Saturation Current: 33A; Case/Size Code: 3119; DC Resistance: 5.3mΩ; Category: Inductors for Digital Audio; Mount: Through Hole; Inductance: 22µH; Packaging: Tray; Length: 31mm; Width: 19mm; Height: 35mm; ComponentLink1URL: https://www.we-online.com/redexpert/article/7444013119220?ad; ComponentLink1Description: Website Link; ComponentLink2URL: https://www.we-online.com/redexpert/spec/7444013119220?ad; ComponentLink2Description: Datasheet Link; Match Code: WE-HIDA; Operating Temperature Max: 125°C; Operating Temperature Min: -40°C; Rated Current: 10A
footprint WE-HIDA_3119_7444013119220 (THT High Current Inductor, body 31x19mm)
pins: 1, 2

## IND_47uH_1.65A
designator L?, comment Rated: 47uH 1.65A  (hidden comment: FIXED IND 47UH 1.65A 121MOHM SMD)
47 µH Shielded Drum Core, Wirewound Inductor 1.65 A 121mOhm Nonstandard; Manufacturer Part Number: SRU1038-470Y
footprint Bourns_SRU1038_MFG
pins: 1, 2

## Inductor
designator L?, comment 2.2uH
Power Inductor,2.2uH,+/-20,SPH,3.0*3.0*1.2mm,SMD,Sunlord; Manufacturer P/N: SPH3012H2R2MT; PCB Footprint: L3X3; Myir P/N: 20501.00034; Part Type: Power Inductor; Manufacturer: Sunlord; Reserve Value: 2.2uH; Datasheet: SPH series of SMD Power Inductor.pdf
footprint VLCF5020T
footprint L3X3
pins: 1, 2

## Inductor_Dup1
designator L?, comment 2.2uH/35mR/5.5A  Supplier Part Number 1: 490-5114-2-ND
Inductor Power Chip Shielded Multi-Layer 2.2uH 20% 1MHz Ferrite 1.3A 100mOhm DCR 1008 T/R; RP1 Manufacturer P/N: MWSA0503S-2R2MT; Manufacturer P/N: MPH0530-2R2M; Manufacturer: Vcoil; Manufacturer Part Number: LQM2HPN2R2MG0L; RP1 Myir P/N: 20501.00040; Myir P/N: 20501.00020; PCB Footprint: l5_2x5_5; Self Resonant Frequency: 40MHz; DC Resistance (DCR): 80mR; Series Resistance: 100mR; Voltage Rating: 50V; Datasheet: MPH-Inductor.pdf; Reserve Value: 2.2uH; Part Type: Power Inductor; Supplier 1: Digikey; RoHS: Yes; Category: Fixed Inductors; Stock 1: 123000; Pricing 1: 3000=0.08405, 6000=0.08142, 15000=0.07879, 30000=0.07617, 75000=0.07354 (USD); Mount: Surface Mount; Case/Package: 1008; Number of Pins: 2NUMBER; Core Material: Ferrite; Case Code (Metric): 2520; Case Code (Imperial): 1008; Min Operating Temperature: -55°C; Max Operating Temperature: 125°C; Packaging: Tape and Reel; Shielding: Shielded; Tolerance: 20%; Package Quantity: 1; Current Rating: 1.3A; Inductance: 2.2uH; Max DC Current: 1.3A; Termination: SMD/SMT; Test Frequency: 1MHz; DC Current: 1.3A; Inductance Tolerance: 20%; Series: LQM2HP_G0; RMS Current (Irms): 1.3A; Voltage Rating (DC): 50V; Length: 2.5mm; Width: 0.079inch; Height: 1.2mm; Height - Seated (Max): 0.039inch; Depth: 2.2mm; Lead Pitch: 5mm; Radiation Hardening: No; Military Standard: Not; Reach SVHC Compliant: No; RoHS Compliant: Yes; Lead Free: 5697LeadFree; ComponentLink1URL: https://datasheet.ciiva.com/30490/0900766b812561d9-30490188.pdf?src-supplier=Rs; ComponentLink1Description: https://datasheet.ciiva.com/30490/0900766b812561d9-30490188.pdf?src-supplier=Rs; ComponentLink2URL: https://datasheet.ciiva.com/18089/getdatasheetpartid-153082-18089633.pdf?src-supplier=Verical; ComponentLink2Description: https://datasheet.ciiva.com/18089/getdatasheetpartid-153082-18089633.pdf?src-supplier=Verical; ComponentLink3URL: https://datasheet.ciiva.com/1042/l0075s0104lqm2hp-g0-1042920.pdf?src-supplier=Digikey; ComponentLink3Description: https://datasheet.ciiva.com/1042/l0075s0104lqm2hp-g0-1042920.pdf?src-supplier=Digikey; ComponentLink4URL: https://datasheet.ciiva.com/1042/l0075s0104lqm2hp-g0-1042919.pdf?src-supplier=Digikey; ComponentLink4Description: https://datasheet.ciiva.com/1042/l0075s0104lqm2hp-g0-1042919.pdf?src-supplier=Digikey; ComponentLink5URL: https://datasheet.ciiva.com/1042/l0075s0104lqm2hp-g0-1042921.pdf?src-supplier=Digikey; ComponentLink5Description: https://datasheet.ciiva.com/1042/l0075s0104lqm2hp-g0-1042921.pdf?src-supplier=Digikey; ComponentLink6URL: https://datasheet.ciiva.com/4959/product-4959558.pdf?src-supplier=Mouser; ComponentLink6Description: https://datasheet.ciiva.com/4959/product-4959558.pdf?src-supplier=Mouser; ComponentLink7URL: https://datasheet.ciiva.com/8510/l0075s0104lqm2hp-g0-8510494.pdf?src-supplier=Avnet; ComponentLink7Description: https://datasheet.ciiva.com/8510/l0075s0104lqm2hp-g0-8510494.pdf?src-supplier=Avnet
footprint VLCF5020T
footprint l5_2x5_5
pins: 1, 2

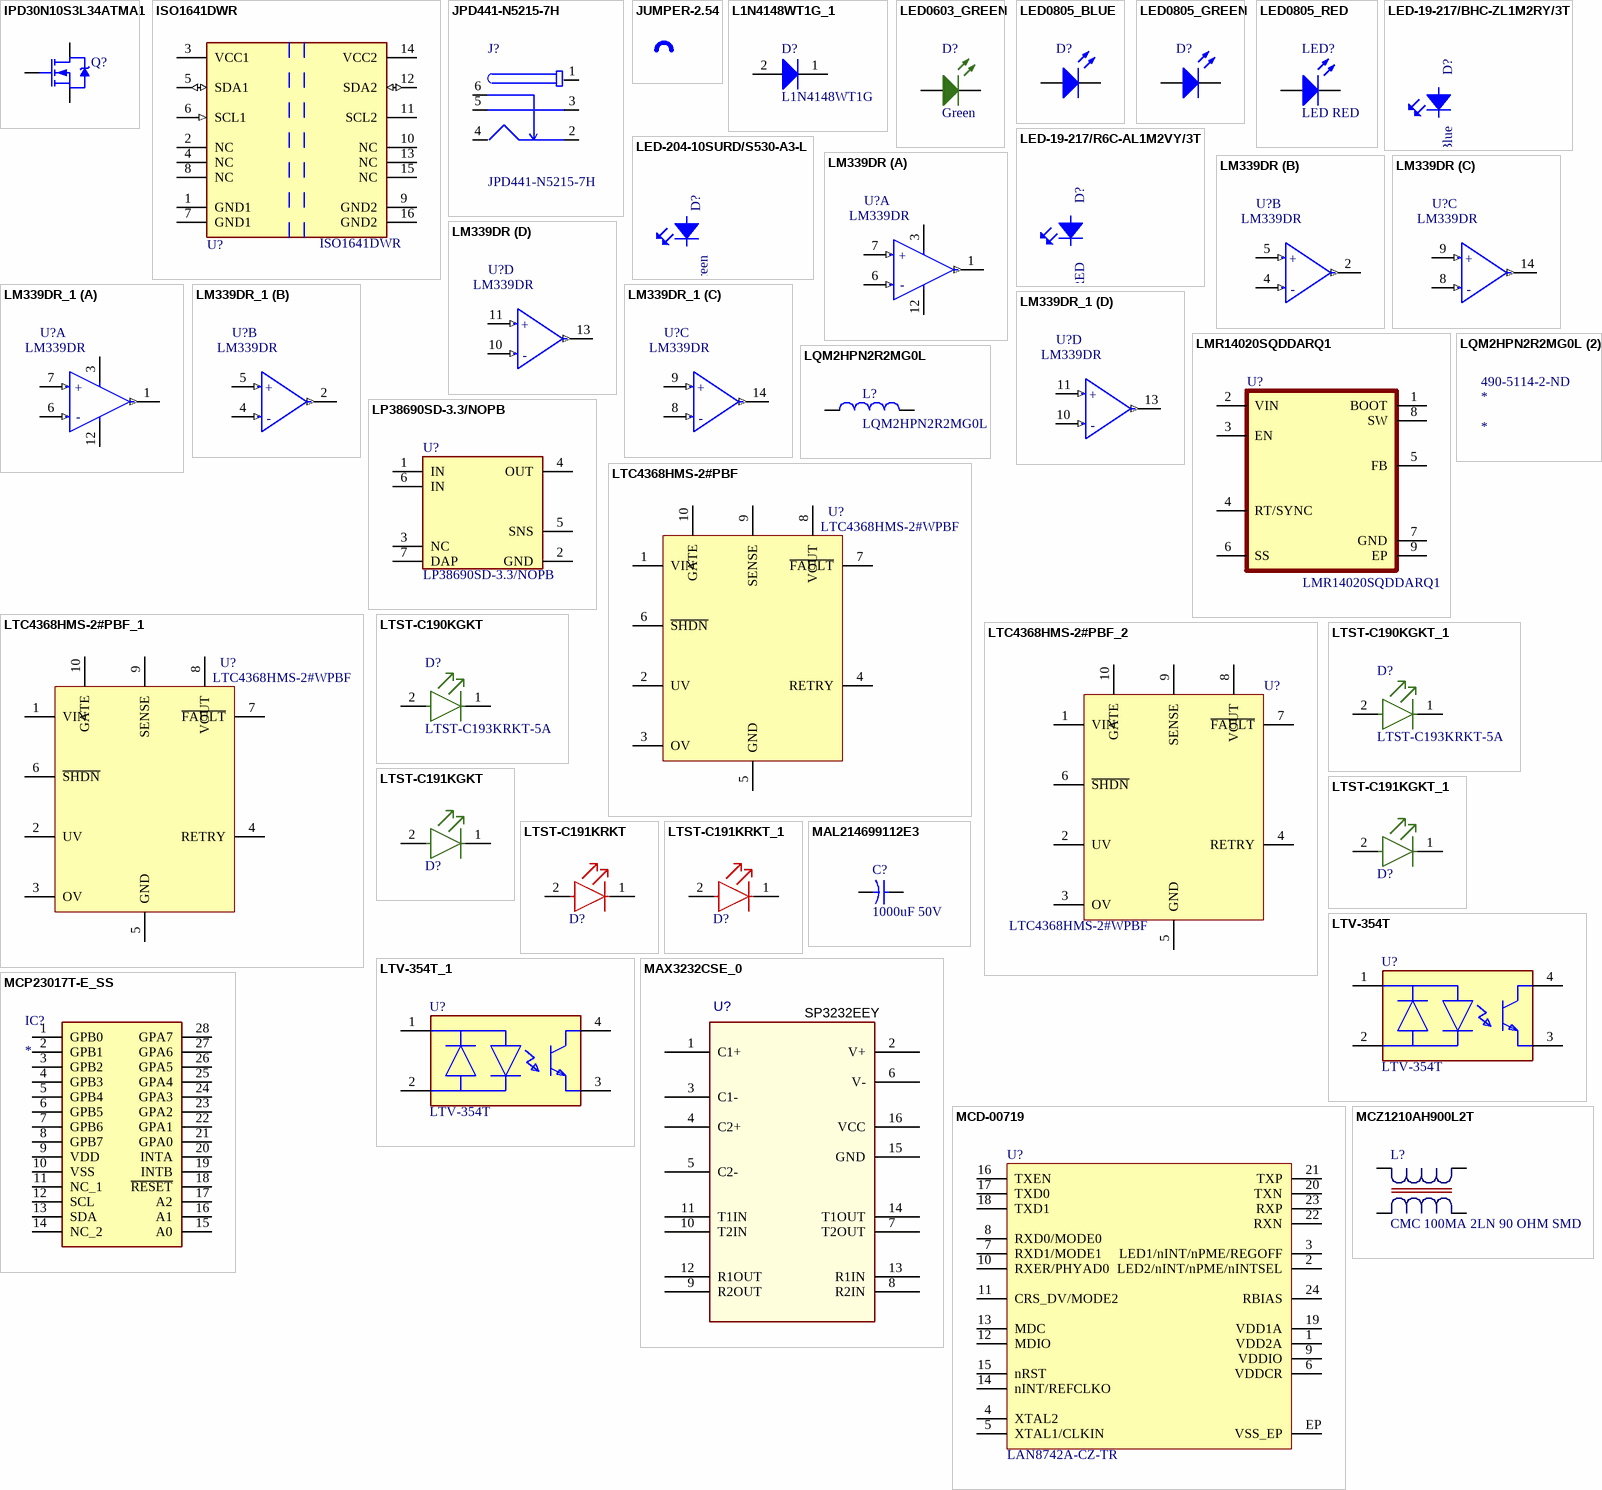
[diagram p10: symbols IPD30N10S3L34ATMA1 to MCZ1210AH900L2T]

## IPD30N10S3L34ATMA1
designator Q?, comment MOSFET N-CH 100V 30A TO252-3  (value not drawn)
N-Channel 100 V 30A (Tc) 57W (Tc) Surface Mount PG-TO252-3-11; Manufacturer Part Number: IPD30N10S3L34ATMA1; Value: N-Channel 100 V 30A (Tc) 57W (Tc) Surface Mount PG-TO252-3-11
footprint TO-252_L6.5-W6.1-P4.58-LS9.9-BR
pins: 1 G, 2 D, 3 S

## ISO1641DWR
designator U?
I²C Digital Isolator 5000Vrms 2 Channel 50kV/µs CMTI 16-SOIC (0.295", 7.50mm Width); Manufacturer: Texas Instruments; Manufacturer Part Number: ISO1641DWR
footprint Texas_Instruments_DW0016A_IPC_B
pins: 1 GND1 (power), 2 NC, 3 VCC1 (power), 4 NC, 5 SDA1 (io), 6 SCL1 (in), 7 GND1 (power), 8 NC, 9 GND2 (power), 10 NC, 11 SCL2, 12 SDA2 (io), 13 NC, 14 VCC2 (power), 15 NC, 16 GND2 (power)

## JPD441-N5215-7H
designator J?
Connector,DC Jack,Male,Right angle,7A &30¡ãC,Foxconn; Myir P/N: 21115.00002; PCB Footprint: JPD441-N5215-7H; Part Type: DC Connector; Manufacturer: Foxconn; Manufacturer P/N: JPD441-N5215-7H; Reserve Value: JPD441-N5215-7H; Datasheet: DC_JACK_Foxconn_JPD441-N5215-7H.pdf
footprint JPD441-N5215-7H
pins: 1, 2, 3, 4, 5, 6

## JUMPER-2.54
designator Z?, comment Jumper Pitch 2.54  (value not drawn)
Jumper,2 Points Jumper Pitch 2.54; Manufacturer Part Number: G4160-1A60BF1U; Manufacturer: WIESON; Part Number: 440-00002-1; FAB: NA; REF: JUMPER 2.54; PCB Footprint: JUMPER-2.54; DESIG: 2 POINTS JUMPER PITCH 2.54; VAL: JUMPER 2.54; BOI: NA; Part Type: Jumper
footprint JUMPER-2.54

## L1N4148WT1G_1
designator D?, comment Manufacturer Part Number: L1N4148WT1G  (hidden comment: 100V 425mW Single 1.25V 4ns 200mA SOD-123 Switching Diode ROHS)
Order Code: LCSC: C78089; LCSC Manufacturer Part Number: L1N4148WT1G; LCSC Part Number: C78089
footprint SOD-123_L2.8-W1.8-LS3.7-RD
pins: 1 K, 2 A

## LED0603_GREEN
designator D?, comment Green
LED GREEN CLEAR 0603 SMD; Manufacturer Part Number: 150060GS75000; Order Code: DIGI : 732-4971-1-ND; Value: Green
footprint LED0603
pins: 1 A, 2 K

## LED0805_BLUE
designator D?, comment LED BLUE  (value not drawn)
Blue 470nm LED Indication - Discrete 3V 0805 (2012 Metric); Manufacturer Part Number: IN-S85AT5B; Manufacturer: Inolux; Color: Red; ComponentLink1Description: Manufacturer URL; ComponentLink2Description: Datasheet; ComponentLink1URL: http://www.we-online.com; PackageReference: 0805_A; ComponentLink2URL: http://katalog.we-online.com/led/datasheet/150080RS75000.pdf
footprint LED0805 (Chip LED, 2-Leads, Body 2.0x1.3mm, IPC Medium Density)
pins: 1 K, 2 A

## LED0805_GREEN
designator D?, comment LED GREEN  (value not drawn)
Green 570nm LED Indication - Discrete 2.1V 0805 (2012 Metric); Manufacturer Part Number: QTLP630C4TR; Manufacturer: Everlight Electronics Co Ltd; Color: Red; ComponentLink1Description: Manufacturer URL; ComponentLink2Description: Datasheet; ComponentLink1URL: http://www.we-online.com; PackageReference: 0805_A; ComponentLink2URL: http://katalog.we-online.com/led/datasheet/150080RS75000.pdf
footprint LED0805 (Chip LED, 2-Leads, Body 2.0x1.3mm, IPC Medium Density)
pins: 1 K, 2 A

## LED0805_RED
designator LED?, comment LED RED
SMD mono-color Chip LED, WL-SMCW, Red; Manufacturer Part Number: 150080RS75000; Manufacturer: Wuerth Elektronik; ComponentLink1Description: Manufacturer URL; ComponentLink2Description: Datasheet; Color: Red; ComponentLink1URL: http://www.we-online.com; PackageReference: 0805_A; ComponentLink2URL: http://katalog.we-online.com/led/datasheet/150080RS75000.pdf
footprint LED0805 (Chip LED, 2-Leads, Body 2.0x1.3mm, IPC Medium Density)
pins: 1 K, 2 A

## LED-19-217/BHC-ZL1M2RY/3T
designator D?, comment Blue
LED,Brilliant Blue,Water Clear,10mA,SMD,0603,Everlight; Manufacturer P/N: 19-217/BHC-ZL1M2RY/3T; PCB Footprint: LED0603; Myir P/N: 20704.00011; Datasheet: 19-217-BHC-ZL1M2RY-3T.pdf; Reserve Value: Blue; Manufacturer: Everlight; Part Type: LED
footprint LED0603
pins: 1 A, 2 K

## LED-19-217/R6C-AL1M2VY/3T
designator D?, comment RED
LED,Brilliant Red,Water Clear,25mA,SMD,0603,Everlight; Manufacturer P/N: 19-217/R6C-AL1M2VY/3T; PCB Footprint: LED0603; Myir P/N: 20704.00010; Datasheet: 19-217-R6C-AL1M2VY-3T.pdf; Reserve Value: Red; Manufacturer: Everlight; Part Type: LED
footprint LED0603
pins: 1 A, 2 K

## LED-204-10SURD/S530-A3-L
designator D?, comment Green
LED,Brilliant Green,Water Clear,25mA,SMD,0603,Everlight,Everlight; Manufacturer P/N: 19-217/G7C-AN1P2-3T; PCB Footprint: LED0603; Myir P/N: 20704.80031; Part Type: LED; Manufacturer: Everlight; Reserve Value: Green; Datasheet: 19-217-G7C-AN1P2-3T.pdf
footprint LED0603
pins: 1 A, 2 K

## LM339DR
designator U?, comment Manufacturer Part Number: LM339DR  (hidden comment: IC COMPARATOR 4 DIFF 14SOIC)
Comparator Differential Open-Collector, Rail-to-Rail 14-SOIC
footprint Texas_Instruments_D0014A_IPC_A
part A pins: 1 1OUT (out), 3 VCC (power), 6 1IN- (in), 7 1IN+ (in), 12 GND (power)
part B pins: 2 2OUT (out), 4 2IN- (in), 5 2IN+ (in)
part C pins: 8 3IN- (in), 9 3IN+ (in), 14 OUT3 (out)
part D pins: 10 4IN- (in), 11 4IN+ (in), 13 OUT4 (out)
part A text: +; -
part B text: +; -
part C text: +; -
part D text: +; -

## LM339DR_1
designator U?, comment Manufacturer Part Number: LM339DR  (hidden comment: IC COMPARATOR 4 DIFF 14SOIC)
Comparator Differential Open-Collector, Rail-to-Rail 14-SOIC
footprint Texas_Instruments_D0014A_IPC_A
part A pins: 1 1OUT (out), 3 VCC (power), 6 1IN- (in), 7 1IN+ (in), 12 GND (power)
part B pins: 2 2OUT (out), 4 2IN- (in), 5 2IN+ (in)
part C pins: 8 3IN- (in), 9 3IN+ (in), 14 OUT3 (out)
part D pins: 10 4IN- (in), 11 4IN+ (in), 13 OUT4 (out)
part A text: +; -
part B text: +; -
part C text: +; -
part D text: +; -

## LMR14020SQDDARQ1
designator U?
Automotive 40V, 2A SIMPLE SWITCHER, 2.2MHz Step-Down Regulator with 40uA IQ; Manufacturer_Name: Texas Instruments; Geometry.Height: 1.7mm; Manufacturer Part Number: LMR14020SQDDARQ1; Mouser Part Number: 595-LMR14020SQDDARQ1; Mouser Price/Stock: https://www.mouser.co.uk/ProductDetail/Texas-Instruments/LMR14020SQDDARQ1?qs=8%2FmU9qzJpL8PyB4AgU4Y8g%3D%3D; Arrow Part Number: LMR14020SQDDARQ1; Arrow Price/Stock: https://www.arrow.com/en/products/lmr14020sqddarq1/texas-instruments; Datasheet Link: http://www.ti.com/general/docs/suppproductinfo.tsp?distId=10&gotoUrl=http%3A%2F%2Fwww.ti.com%2Flit%2Fgpn%2Flmr14020-q1
footprint SOIC127P600X170-9N
pins: 1 BOOT, 2 VIN, 3 EN, 4 RT/SYNC, 5 FB, 6 SS, 7 GND, 8 SW, 9 EP

## LP38690SD-3.3/NOPB
designator U?
1A Low Dropout CMOS Linear Regulators Stable with Ceramic Output Capacitors, 6-pin LLP, Pb-Free; Manufacturer: National Semiconductor; PackageTopMarking: ZXYTT*L115B; PowerWise: Y; CompType: LDO IC; ComponentLink1Description: LP38690 Datasheet; ComponentLink2Description: LP38690 Web Page; DatasheetVersion: May-2005; PinCount: 6; ComponentLink1URL: http://www.national.com/ds/LP/LP38690.pdf; ComponentLink2URL: http://www.national.com/pf/LP/LP38690.html; RevisionNote: Component URLs added; ComponentLink3URL: http://www.national.com/packaging/folders/sde06a.html; ComponentLink3Description: SDE06A Package Page; PackageVersion: revA, Jul-2003; PackageReference: SDE06A; PackageDescription: LLP, Plastic, Dual, 3 x 3 x 0.8mm Body, 6 Lead, 0.95mm Pitch, No Pullback; RoHS: Y; Manufacturer Part Number: LP38690SD-3.3/NOPB
footprint SDE06A_quad (SON, 6-Leads, Body 3x3 mm, Pitch 0.95mm, NSC Recommended)
pins: 1 IN (power), 2 GND (power), 3 NC, 4 OUT (power), 5 SNS, 6 IN (power), 7 DAP (power)

## LQM2HPN2R2MG0L
designator L?
Inductor Power Chip Shielded Multi-Layer 2.2uH 20% 1MHz Ferrite 1.3A 100mOhm DCR 1008 T/R
footprint INDC2520X100N
pins: 1, 2

## LQM2HPN2R2MG0L (2)
designator *  Supplier Part Number 1: 490-5114-2-ND
Inductor Power Chip Shielded Multi-Layer 2.2uH 20% 1MHz Ferrite 1.3A 100mOhm DCR 1008 T/R; Manufacturer: Murata; Manufacturer Part Number: LQM2HPN2R2MG0L; Self Resonant Frequency: 40MHz; DC Resistance (DCR): 80mR; Series Resistance: 100mR; Voltage Rating: 50V; Supplier 1: Digikey; RoHS: Yes; Category: Fixed Inductors; Stock 1: 123000; Pricing 1: 3000=0.08405, 6000=0.08142, 15000=0.07879, 30000=0.07617, 75000=0.07354 (USD); Mount: Surface Mount; Case/Package: 1008; Number of Pins: 2NUMBER; Core Material: Ferrite; Case Code (Metric): 2520; Case Code (Imperial): 1008; Min Operating Temperature: -55°C; Max Operating Temperature: 125°C; Packaging: Tape and Reel; Shielding: Shielded; Tolerance: 20%; Package Quantity: 1; Current Rating: 1.3A; Inductance: 2.2uH; Max DC Current: 1.3A; Termination: SMD/SMT; Test Frequency: 1MHz; DC Current: 1.3A; Inductance Tolerance: 20%; Series: LQM2HP_G0; RMS Current (Irms): 1.3A; Voltage Rating (DC): 50V; Length: 2.5mm; Width: 0.079inch; Height: 1.2mm; Height - Seated (Max): 0.039inch; Depth: 2.2mm; Lead Pitch: 5mm; Radiation Hardening: No; Military Standard: Not; Reach SVHC Compliant: No; RoHS Compliant: Yes; Lead Free: 5697LeadFree; ComponentLink1URL: https://datasheet.ciiva.com/30490/0900766b812561d9-30490188.pdf?src-supplier=Rs; ComponentLink1Description: https://datasheet.ciiva.com/30490/0900766b812561d9-30490188.pdf?src-supplier=Rs; ComponentLink2URL: https://datasheet.ciiva.com/18089/getdatasheetpartid-153082-18089633.pdf?src-supplier=Verical; ComponentLink2Description: https://datasheet.ciiva.com/18089/getdatasheetpartid-153082-18089633.pdf?src-supplier=Verical; ComponentLink3URL: https://datasheet.ciiva.com/1042/l0075s0104lqm2hp-g0-1042920.pdf?src-supplier=Digikey; ComponentLink3Description: https://datasheet.ciiva.com/1042/l0075s0104lqm2hp-g0-1042920.pdf?src-supplier=Digikey; ComponentLink4URL: https://datasheet.ciiva.com/1042/l0075s0104lqm2hp-g0-1042919.pdf?src-supplier=Digikey; ComponentLink4Description: https://datasheet.ciiva.com/1042/l0075s0104lqm2hp-g0-1042919.pdf?src-supplier=Digikey; ComponentLink5URL: https://datasheet.ciiva.com/1042/l0075s0104lqm2hp-g0-1042921.pdf?src-supplier=Digikey; ComponentLink5Description: https://datasheet.ciiva.com/1042/l0075s0104lqm2hp-g0-1042921.pdf?src-supplier=Digikey; ComponentLink6URL: https://datasheet.ciiva.com/4959/product-4959558.pdf?src-supplier=Mouser; ComponentLink6Description: https://datasheet.ciiva.com/4959/product-4959558.pdf?src-supplier=Mouser; ComponentLink7URL: https://datasheet.ciiva.com/8510/l0075s0104lqm2hp-g0-8510494.pdf?src-supplier=Avnet; ComponentLink7Description: https://datasheet.ciiva.com/8510/l0075s0104lqm2hp-g0-8510494.pdf?src-supplier=Avnet

## LTC4368HMS-2#PBF
designator U?, comment P/N: LTC4368HMS-2#WPBF  (hidden comment: ADJ)
IC SURGE SUPPRESSION ADJ 10MSOP; Order Code: DIGI :  161-LTC4368HMS-2#WPBF-ND; Value: ADJ
footprint MSOP10 (10-TFSOP, 10-MSOP (0.118", 3.00mm Width))
pins: 1 VIN, 2 UV, 3 OV, 4 RETRY, 5 GND, 6 ~{SHDN}, 7 ~{FAULT}, 8 VOUT, 9 SENSE, 10 GATE

## LTC4368HMS-2#PBF_1
designator U?, comment P/N: LTC4368HMS-2#WPBF  (hidden comment: ADJ)
IC SURGE SUPPRESSION ADJ 10MSOP; Order Code: DIGI :  161-LTC4368HMS-2#WPBF-ND; Value: ADJ
footprint MSOP10 (10-TFSOP, 10-MSOP (0.118", 3.00mm Width))
pins: 1 VIN, 2 UV, 3 OV, 4 RETRY, 5 GND, 6 ~{SHDN}, 7 ~{FAULT}, 8 VOUT, 9 SENSE, 10 GATE

## LTC4368HMS-2#PBF_2
designator U?, comment Manufacturer Part Number: LTC4368HMS-2#WPBF  (hidden comment: ADJ)
IC SURGE SUPPRESSION ADJ 10MSOP; Order Code: DIGI :  161-LTC4368HMS-2#WPBF-ND; Value: ADJ
footprint MSOP10
pins: 1 VIN, 2 UV, 3 OV, 4 RETRY, 5 GND, 6 ~{SHDN}, 7 ~{FAULT}, 8 VOUT, 9 SENSE, 10 GATE

## LTST-C190KGKT
designator D?, comment Manufacturer Part Number: LTST-C193KRKT-5A  (hidden comment: LED GREEN CLEAR CHIP SMD)
Green 571nm LED Indication - Discrete 2V 0603 (1608 Metric); Manufacturer: Lite-On Inc.; Order Code: Digi: 160-1830-2-ND; LCSC Part Number: C125094; LCSC Manufacturer Part Number: LTST-C193KRKT-5A
footprint Lite-On_0_MFG_GREEN
pins: 1 C, 2 A

## LTST-C190KGKT_1
designator D?, comment Manufacturer Part Number: LTST-C193KRKT-5A  (hidden comment: LED GREEN CLEAR CHIP SMD)
Green 571nm LED Indication - Discrete 2V 0603 (1608 Metric); Manufacturer: Lite-On Inc.; Order Code: Digi: 160-1830-2-ND; LCSC Part Number: C125094; LCSC Manufacturer Part Number: LTST-C193KRKT-5A
footprint Lite-On_0_MFG_GREEN
pins: 1 C, 2 A

## LTST-C191KGKT
designator D?, comment LED GREEN CLEAR SMD  (value not drawn)
Green 571nm LED Indication - Discrete 2V 0603 (1608 Metric); Manufacturer Part Number: LTST-C191KGKT; Order Code: Digi: 160-1446-2-ND; LCSC Manufacturer Part Number: LTST-C191KGKT; LCSC Part Number: C125098
footprint Lite-On_GREEN_MFG
pins: 1 C, 2 A

## LTST-C191KGKT_1
designator D?, comment LED GREEN CLEAR SMD  (value not drawn)
Green 571nm LED Indication - Discrete 2V 0603 (1608 Metric); Manufacturer Part Number: LTST-C191KGKT; Order Code: Digi: 160-1446-2-ND; LCSC Manufacturer Part Number: LTST-C191KGKT; LCSC Part Number: C125098
footprint Lite-On_GREEN_MFG
pins: 1 C, 2 A

## LTST-C191KRKT
designator D?, comment LED RED CLEAR SMD  (value not drawn)
Red 631nm LED Indication - Discrete 2V 0603 (1608 Metric); Manufacturer Part Number: LTST-C191KRKT; Order Code: Digi: 160-1447-2-ND; LCSC Manufacturer Part Number: LTST-C191KRKT; LCSC Part Number: C125099
footprint Lite-On_0_MFG
pins: 1 C, 2 A

## LTST-C191KRKT_1
designator D?, comment LED RED CLEAR SMD  (value not drawn)
Red 631nm LED Indication - Discrete 2V 0603 (1608 Metric); Manufacturer Part Number: LTST-C191KRKT; Order Code: Digi: 160-1447-2-ND; LCSC Manufacturer Part Number: LTST-C191KRKT; LCSC Part Number: C125099
footprint Lite-On_0_MFG
pins: 1 C, 2 A

## LTV-354T
designator U?, comment Manufacturer Part Number: LTV-354T  (hidden comment: OPTOISOLATOR 3.75KV TRANS 4-SOP)
Optoisolator Transistor Output 3750Vrms 1 Channel 4-SOP; Order Code: Digi: 160-1333-2-ND; LCSC Manufacturer Part Number: LTV-354T; LCSC Part Number: C119090
footprint Lite-On_LTV-354T_0
pins: 1 Anode/Cathode, 2 Cathode/Anode, 3 E, 4 C

## LTV-354T_1
designator U?, comment Manufacturer Part Number: LTV-354T  (hidden comment: OPTOISOLATOR 3.75KV TRANS 4-SOP)
Optoisolator Transistor Output 3750Vrms 1 Channel 4-SOP; Order Code: Digi: 160-1333-2-ND; LCSC Manufacturer Part Number: LTV-354T; LCSC Part Number: C119090
footprint Lite-On_LTV-354T_0
pins: 1 Anode/Cathode, 2 Cathode/Anode, 3 E, 4 C

## MAL214699112E3
designator C?, comment 1000uF 50V
Vishay Extreme 1000uF 50 V Aluminium Electrolytic Capacitor 1816, 146 CTI Series 4000 h, 5000 h, 350000 h; Manufacturer_Part_Number: MAL214699112E3; Geometry.Height: 17.5mm; Manufacturer_Name: Vishay; Mouser Part Number: 594-MAL214699112E3; Mouser Price/Stock: https://www.mouser.co.uk/ProductDetail/Vishay-BC-Components/MAL214699112E3?qs=Ep9Lwju7gVqvA%252BJOlnnegw%3D%3D; Arrow Part Number: MAL214699112E3; Arrow Price/Stock: https://www.arrow.com/en/products/mal214699112e3/vishay; Datasheet Link: http://www.vishay.com/docs/28403/146cti.pdf
footprint MAL214699112E3
pins: 1, 2

## MAX3232CSE_0
designator U?, comment SP3232EEY
Manufacturer Part Number: ST3232BDR; BOM: I
footprint TSSOP16
pins: 1 C1+, 2 V+, 3 C1-, 4 C2+, 5 C2-, 6 V-, 7 T2OUT, 8 R2IN, 9 R2OUT, 10 T2IN, 11 T1IN, 12 R1OUT, 13 R1IN, 14 T1OUT, 15 GND, 16 VCC

## MCD-00719
designator U?  value LAN8742A-CZ-TR  (hidden comment: MCD-00719)
10/100M RMII Ethernet transceiver; Manufacturer: MICROCHIP; Part_Type: IC; Provided_By: SUBCO; Internal_Part_Number: MCD-00719; Status: Released; Manufacturer_Part_Number: LAN8742A-CZ-TR; ComponentLink1Description: Datasheet; ComponentLink1URL: http://tunmcdsvn.tun.st.com/Component_Datasheet_Library/Trunk/IC/MICROCHIP_LAN8742A_RMII_PHY; ECCN_US: n/a; ECCN_EU: n/a
footprint ICC_VQFN24-EPAD_4X4_P050
pins: 1 VDD2A, 2 LED2/nINT/nPME/nINTSEL, 3 LED1/nINT/nPME/REGOFF, 4 XTAL2, 5 XTAL1/CLKIN, 6 VDDCR, 7 RXD1/MODE1, 8 RXD0/MODE0, 9 VDDIO, 10 RXER/PHYAD0, 11 CRS_DV/MODE2, 12 MDIO, 13 MDC, 14 nINT/REFCLKO, 15 nRST, 16 TXEN, 17 TXD0, 18 TXD1, 19 VDD1A, 20 TXN, 21 TXP, 22 RXN, 23 RXP, 24 RBIAS, EP VSS_EP

## MCP23017T-E_SS
designator IC?
Integrated Circuit; Manufacturer_Name: Microchip; Manufacturer_Part_Number: MCP23017T-E/SS; Datasheet Link: https://datasheet.datasheetarchive.com/originals/distributors/SFDatasheet-4/sf-00090057.pdf; Height: 2mm; Mouser Part Number: 579-MCP23017T-E/SS; Mouser Price/Stock: https://www.mouser.co.uk/ProductDetail/Microchip-Technology/MCP23017T-E-SS?qs=usxtMOJb1Rz2FhASIaFluQ%3D%3D; Arrow Part Number: MCP23017T-E/SS; Arrow Price/Stock: https://www.arrow.com/en/products/mcp23017t-ess/microchip-technology?region=nac
footprint SOP65P780X200-28N
pins: 1 GPB0, 2 GPB1, 3 GPB2, 4 GPB3, 5 GPB4, 6 GPB5, 7 GPB6, 8 GPB7, 9 VDD, 10 VSS, 11 NC_1, 12 SCL, 13 SDA, 14 NC_2, 15 A0, 16 A1, 17 A2, 18 ~{RESET}, 19 INTB, 20 INTA, 21 GPA0, 22 GPA1, 23 GPA2, 24 GPA3, 25 GPA4, 26 GPA5, 27 GPA6, 28 GPA7

## MCZ1210AH900L2T
designator L?, comment CMC 100MA 2LN 90 OHM SMD
2 Line Common Mode Choke Surface Mount 90 Ohms @ 100 MHz 100mA DCR 1.75Ohm; Manufacturer Part Number: MCZ1210AH900L2TA0G; LCSC Manufacturer Part Number: MCZ1210AH900L2TD0G; Order Code: Digi: 445-MCZ1210AH900L2TA0GTR-ND; LCSC Part Number: C435268
footprint IND_MCZ1210AH_TDK
pins: 1, 2, 3 4, 4

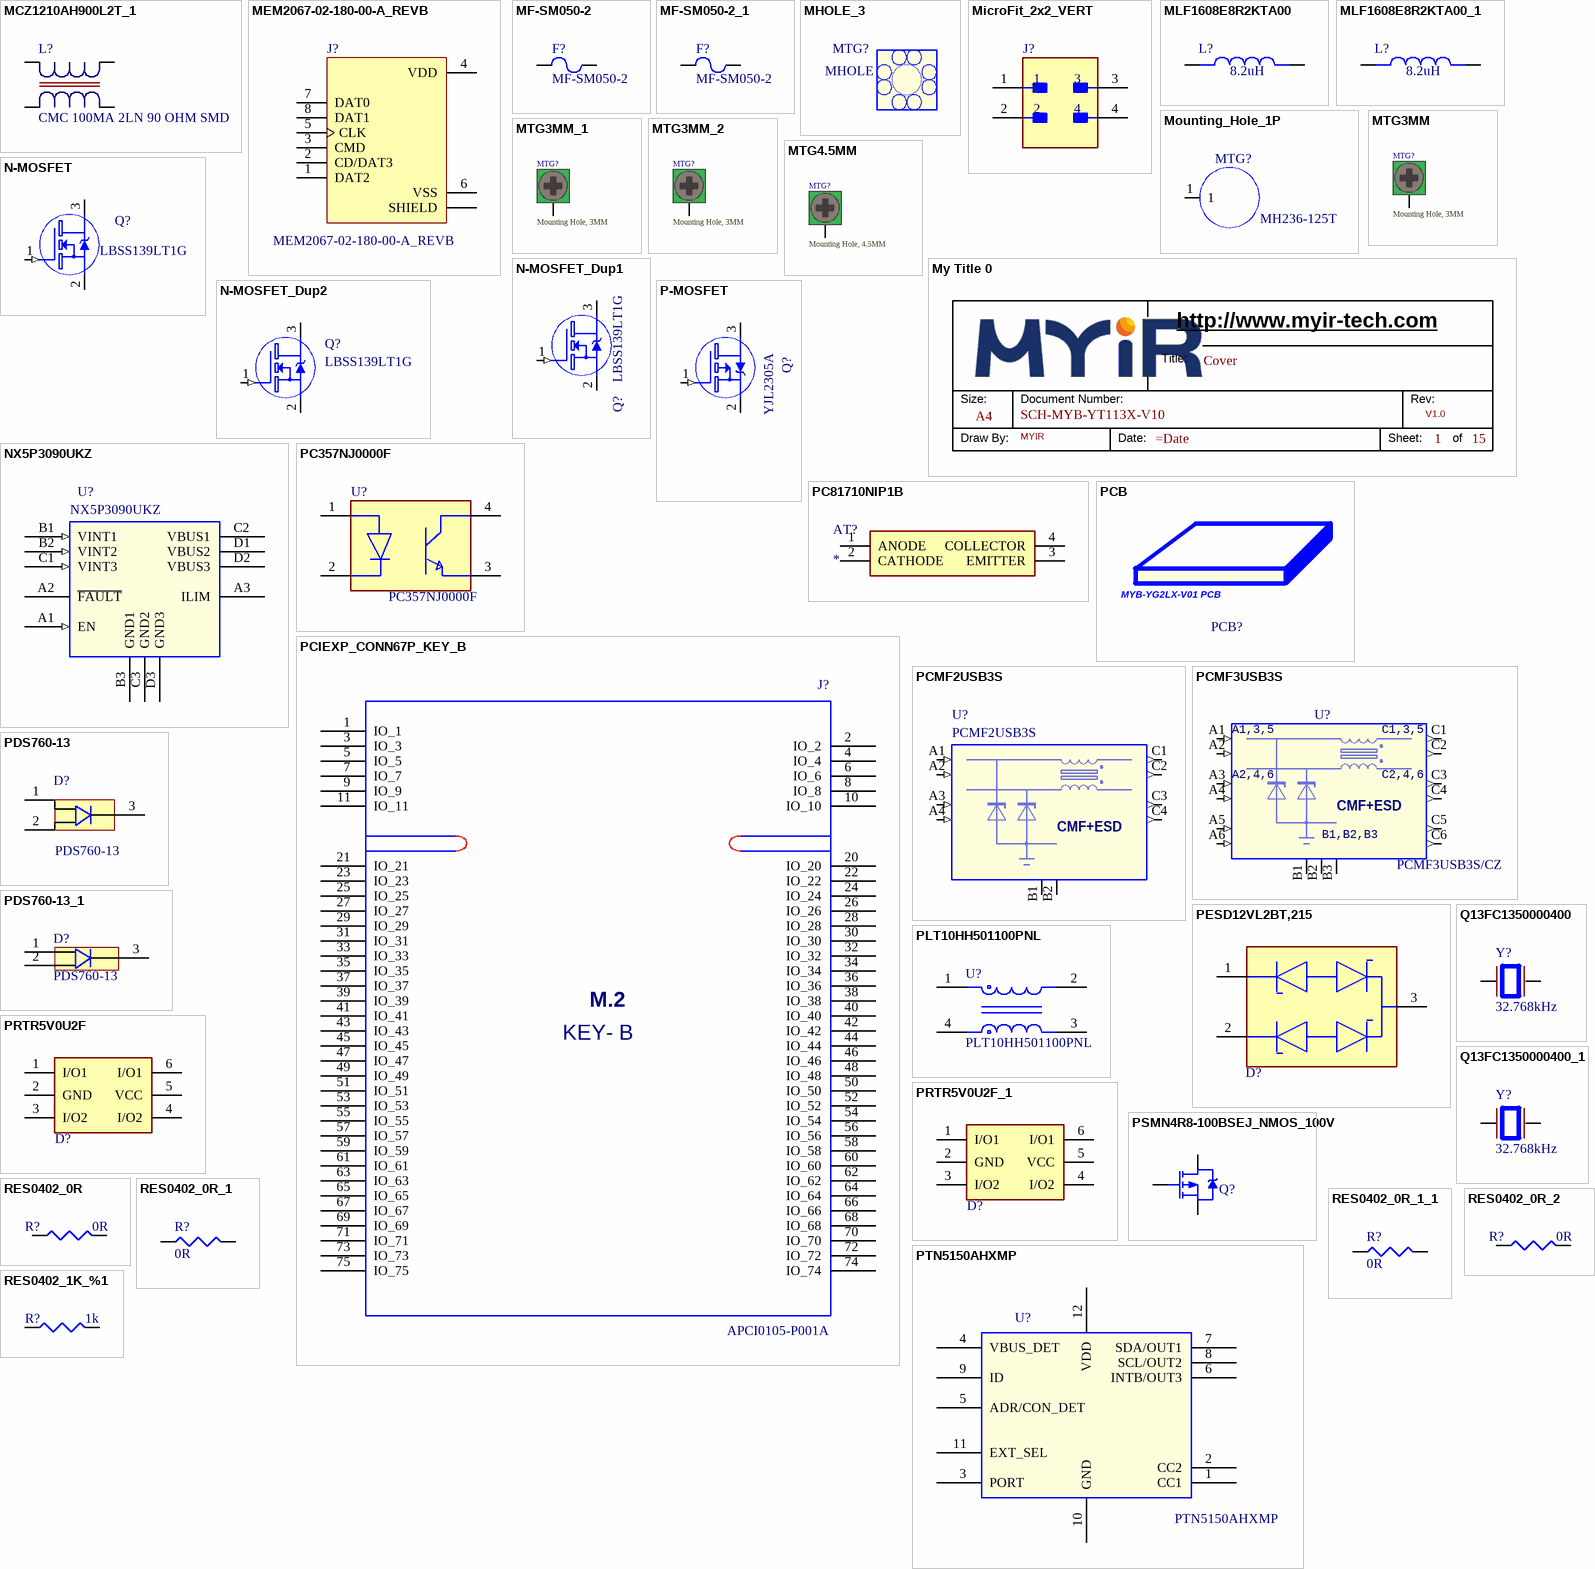
[diagram p11: symbols MCZ1210AH900L2T_1 to RES0402_1K_%1]